# Altium integrated library Xilinx Virtex-E.IntLib: 288 symbols (part 21 of 73)
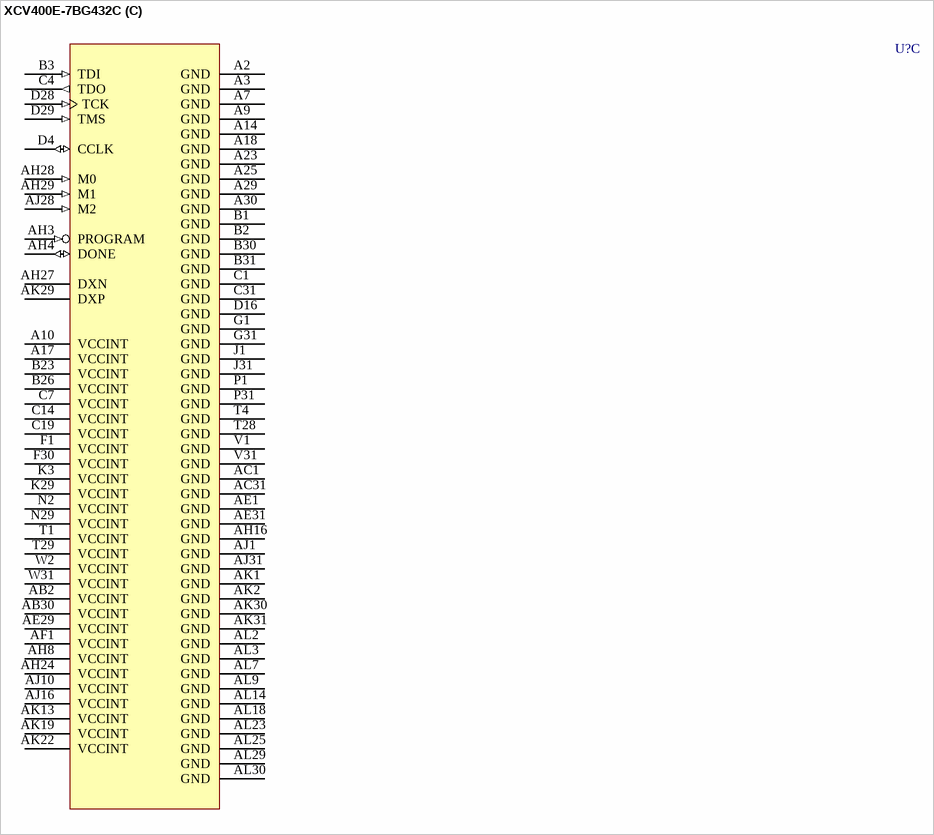
[diagram p413: symbol XCV400E-7BG432C]

## XCV400E-7BG432C
designator U?
Virtex-E 1.8V FPGA, 432-Ball BGA, Commercial Grade; PackageDocument: ver1.1, Apr-2001; Note: Solder pads are defined by the copper, i.e. non-soldermask defined (NSMD); Published: 19-Sep-2001; LatestRevisionDate: 17-Jul-2002; LatestRevisionNote: Re-released for DXP Platform.; DatasheetDocument: Mar-2003; PackageReference: BG432; Publisher: Altium Limited
footprint BG432 (432-Ball Metal Ball Grid Array (BG432))
3D model XCV400E-BG432 (432-Ball Metal Ball Grid Array (BG432))
signal-integrity model XCV400E_BG432 (Virtex-E)
part A pins: A1 VCCO (power), A4 IO_L32N_Y (io), A5 IO_L30N_YY (io), A6 IO_L28P_YY (io), A8 IO_L26N_Y (io), A11 VCCO (power), A12 IO (io), A13 IO_VREF_L19P_YY (io), A15 IO_L17N_Y (io), A16 GCK2 (in), A31 VCCO (power), AA1 VCCO (power), AA2 IO (io), AA3 IO_L58P_YY (io), AA4 VCCO (power), AB1 IO_D5_L58N_YY (io), AB3 IO_D6_L59P_YY (io), AB4 IO_VREF_L59N_YY (io), AC2 IO (io), AC3 IO_L60N_Y (io), AC4 IO_L61P_Y (io), AD1 IO_L60P_Y (io), AD2 IO_L61N_Y (io), AD3 IO_L62P_YY (io), AD4 IO_VREF_L62N_YY (io), AE2 IO (io), AE3 IO_L63N_Y (io), AE4 IO_L64P (io), AF2 IO_L63P_Y (io), AF3 IO_VREF_L65N_Y (io), AF4 IO_L66P_Y (io), AG1 IO_L64N (io), AG2 IO_L65P_Y (io), AG3 IO_L67N (io), AG4 IO_D7_L68P_YY (io), AH1 IO_L66N_Y (io), AH2 IO_L67P (io), AH17 IO_L88P_Y (io), AH18 IO_L90P_YY (io), AH19 IO_L91N_YY (io), AH20 IO (io), AH21 VCCO (power), AH22 IO_L95P_Y (io), AH23 IO_L96N_Y (io), AH25 IO_L99P_Y (io), AH26 IO_L101P_YY (io), AJ2 IO_INIT_L68N_YY (io), AJ3 VCCO (power), AJ17 IO_VREF_L87N_Y (io), AJ18 IO_VREF_L89N_YY (io), AJ19 IO (io), AJ20 IO_L92P_YY (io), AJ21 IO_L93P_YY (io), AJ22 IO_L94P_YY (io), AJ23 IO (io), AJ24 IO (io), AJ25 IO_VREF_L97N_YY (io), AJ26 IO_L100P_YY (io), AJ27 IO_L102P_Y (io), AJ29 VCCO (power), AK16 GCK1 (in), AK17 IO_L87P_Y (io), AK18 IO_L88N_Y (io), AK20 IO_L91P_YY (io), AK21 IO_L92N_YY (io), AK23 IO_VREF_L94N_YY (io), AK24 IO_L96P_Y (io), AK25 IO_L97P_YY (io), AK26 IO_L98N_YY (io), AK27 IO_VREF_L100N_YY (io), AK28 IO_L102N_Y (io), AL17 IO_LVDS_DLL_L86N (io), AL19 IO_L89P_YY (io), AL20 IO_L90N_YY (io), AL21 VCCO (power), AL22 IO_L93N_YY (io), AL24 IO_L95N_Y (io), AL26 IO_L98P_YY (io), AL27 IO_L99N_Y (io), AL28 IO_L101N_YY (io), B4 IO_WRITE_L33N_YY (io), B5 IO_L31N_YY (io), B6 IO_L29N_Y (io), B7 IO_VREF_L27P_YY (io), B8 IO_L26P_Y (io), B9 IO (io), B10 IO_L24N_YY (io), B11 IO (io), B12 IO_L21P_YY (io), B13 IO_L20N_YY (io), B14 IO_L19N_YY (io), B15 IO_VREF_L17P_Y (io), B16 IO_LVDS_DLL_L16P (io), C5 IO_L32P_Y (io), C6 IO_VREF_L30P_YY (io), C8 IO_L27N_YY (io), C9 IO_L25N_Y (io), C10 IO_VREF_L24P_YY (io), C11 IO_L23P_YY (io), C12 IO_L22P_YY (io), C13 IO_L21N_YY (io), C15 IO_L18N_Y (io), C16 IO (io), C30 IO (io), D5 IO_CS_L33P_YY (io), D6 IO_L31P_YY (io), D7 IO_L29P_Y (io), D8 IO_L28N_YY (io), D9 IO (io), D10 IO_L25P_Y (io), D11 VCCO (power), D12 IO_L23N_YY (io), D13 IO_L22N_YY (io), D14 IO_L20P_YY (io), D15 IO_L18P_Y (io), D30 IO_L135P_Y (io), D31 IO_L135N_Y (io), E28 IO_L136P (io), E29 IO_L136N (io), E30 IO_L133P (io), E31 IO_L133N (io), F28 IO_VREF_L134P_Y (io), F29 IO_L134N_Y (io), F31 IO_VREF_L131P_YY (io), G28 IO_L132P_Y (io), G29 IO_L132N_Y (io), G30 IO_L130P_Y (io), H28 IO_L131N_YY (io), H29 IO (io), H30 IO_L130N_Y (io), H31 IO (io), J28 IO_L129P_Y (io), J29 IO_L129N_Y (io), J30 IO_VREF_L128P_YY (io), K28 IO_L128N_YY (io), K30 IO_L127P_YY (io), K31 IO_L127N_YY (io), L28 VCCO (power), L29 IO (io), L30 IO_L126P_Y (io), L31 VCCO (power), M28 IO_L125P_Y (io), M29 IO_L125N_Y (io), M30 IO_L126N_Y (io), M31 IO (io), N28 IO_L124N_Y (io), N30 IO_VREF_L123P_YY (io), N31 IO_L124P_Y (io), P28 IO_L122P_Y (io), P29 IO_L122N_Y (io), P30 IO_L123N_YY (io), R28 IO (io), R29 IO_L120P_YY (io), R30 IO_L121N_Y (io), R31 IO_VREF_L121P_Y (io), T2 IO (io), T31 IO_L120N_YY (io), U1 IO_L53P_Y (io), U2 IO_VREF_L52N_Y (io), U3 IO (io), U4 IO_L52P_Y (io), V2 IO_VREF_L54N_YY (io), V3 IO_L53N_Y (io), V4 IO_D4_L54P_YY (io), W1 IO (io), W3 IO_L55P_Y (io), W4 IO_L55N_Y (io), Y1 IO_L56P_Y (io), Y2 IO_L57N_Y (io), Y3 IO_L56N_Y (io), Y4 IO_L57P_Y (io)
part B pins: A19 IO_L13P_YY (io), A20 IO_L12N_YY (io), A21 VCCO (power), A22 IO (io), A24 IO_L8P_YY (io), A26 IO (io), A27 IO_L4P_YY (io), A28 IO_L2P_YY (io), AA28 VCCO (power), AA29 IO_L113P_YY (io), AA30 IO (io), AA31 VCCO (power), AB28 IO_VREF_L112N_YY (io), AB29 IO_L112P_YY (io), AB31 IO_L113N_YY (io), AC28 IO_L111N_Y (io), AC29 IO_L111P_Y (io), AC30 IO (io), AD28 IO_L109P_YY (io), AD29 IO (io), AD30 IO_L110N_Y (io), AD31 IO_L110P_Y (io), AE28 IO_L108N_Y (io), AE30 IO_VREF_L109N_YY (io), AF28 IO_VREF_L106N_Y (io), AF29 IO_L107N (io), AF30 IO_L107P (io), AF31 IO_L108P_Y (io), AG28 IO_L104N (io), AG29 IO_L105N_Y (io), AG30 IO_L105P_Y (io), AG31 IO_L106P_Y (io), AH5 IO_L70P_Y (io), AH6 IO_L71N_YY (io), AH7 IO_L73N_Y (io), AH9 IO_L76P_Y (io), AH10 IO (io), AH11 VCCO (power), AH12 IO_L80P_YY (io), AH13 IO_L82P_YY (io), AH14 IO_L84P_Y (io), AH15 IO_LVDS_DLL_L86P (io), AH30 IO_L103P_YY (io), AH31 IO_L104P (io), AJ4 IO_L69P_YY (io), AJ5 IO_L71P_YY (io), AJ6 IO_L73P_Y (io), AJ7 IO_VREF_L75P_YY (io), AJ8 IO_L76N_Y (io), AJ9 IO_L77N_Y (io), AJ11 IO (io), AJ12 IO_L81P_YY (io), AJ13 IO_L82N_YY (io), AJ14 IO_L84N_Y (io), AJ15 IO_L85N_Y (io), AJ30 IO_L103N_YY (io), AK3 IO_L69N_YY (io), AK4 IO_L70N_Y (io), AK5 IO_L72N_YY (io), AK6 IO_L74N_YY (io), AK7 IO (io), AK8 IO_L77P_Y (io), AK9 IO_L78N_YY (io), AK10 IO_L79P_YY (io), AK11 IO_L80N_YY (io), AK12 IO_L81N_YY (io), AK14 IO_L83N_YY (io), AK15 IO_VREF_L85P_Y (io), AL1 VCCO (power), AL4 IO_VREF_L72P_YY (io), AL5 IO_L74P_YY (io), AL6 IO_L75N_YY (io), AL8 IO_VREF_L78P_YY (io), AL10 IO_L79N_YY (io), AL11 VCCO (power), AL12 IO (io), AL13 IO_VREF_L83P_YY (io), AL15 IO (io), AL16 GCK0 (in), AL31 VCCO (power), B17 IO_L15P_Y (io), B18 IO_L14N_Y (io), B19 IO_VREF_L13N_YY (io), B20 IO (io), B21 IO_L11N_YY (io), B22 IO_L9P_YY (io), B24 IO_L7P_Y (io), B25 IO_L6N_Y (io), B27 IO_L3N_Y (io), B28 IO_L1N_YY (io), B29 IO_L0N_Y (io), C2 IO_DIN_D0_L34N_YY (io), C3 VCCO (power), C17 IO_LVDS_DLL_L16N (io), C18 IO_VREF_L15N_Y (io), C20 IO_L11P_YY (io), C21 IO_L10N_YY (io), C22 IO_L9N_YY (io), C23 IO (io), C24 IO_L7N_Y (io), C25 IO_L5P_YY (io), C26 IO_L3P_Y (io), C27 IO_L1P_YY (io), C28 IO (io), C29 VCCO (power), D1 IO_L36P_Y (io), D2 IO_L35P (io), D3 IO_DOUT_BUSY_L34P_YY (io), D17 GCK3 (in), D18 IO_L14P_Y (io), D19 IO_L12P_YY (io), D20 IO_L10P_YY (io), D21 VCCO (power), D22 IO_VREF_L8N_YY (io), D23 IO_L6P_Y (io), D24 IO_VREF_L5N_YY (io), D25 IO_L4N_YY (io), D26 IO_VREF_L2N_YY (io), D27 IO_L0P_Y (io), E1 IO_L38P (io), E2 IO_VREF_L37P_Y (io), E3 IO_L36N_Y (io), E4 IO_L35N (io), F2 IO_L39P_Y (io), F3 IO_L38N (io), F4 IO_L37N_Y (io), G2 IO_L40N_YY (io), G3 IO_VREF_L40P_YY (io), G4 IO_L39N_Y (io), H1 IO_L42P_Y (io), H2 IO_L41N_Y (io), H3 IO_L41P_Y (io), H4 IO (io), J2 IO_VREF_L43P_YY (io), J3 IO (io), J4 IO_L42N_Y (io), K1 IO_L44N_YY (io), K2 IO_D2_L44P_YY (io), K4 IO_D1_L43N_YY (io), L1 VCCO (power), L2 IO_L45P_Y (io), L3 IO (io), L4 VCCO (power), M1 IO (io), M2 IO_L46N_Y (io), M3 IO_L46P_Y (io), M4 IO_L45N_Y (io), N1 IO_VREF_L48P_YY (io), N3 IO_L47N_Y (io), N4 IO_L47P_Y (io), P2 IO_L49N_Y (io), P3 IO_L49P_Y (io), P4 IO_D3_L48N_YY (io), R1 IO_L51P_YY (io), R2 IO (io), R3 IO_VREF_L50P_Y (io), R4 IO_L50N_Y (io), T3 IO_L51N_YY (io), T30 IO (io), U28 IO_VREF_L119N_Y (io), U29 IO_L118P_Y (io), U30 IO_L119P_Y (io), U31 IO (io), V28 IO_VREF_L117N_YY (io), V29 IO_L117P_YY (io), V30 IO_L118N_Y (io), W28 IO (io), W29 IO_L116N_Y (io), W30 IO_L116P_Y (io), Y28 IO_L114N_Y (io), Y29 IO_L114P_Y (io), Y30 IO_L115N_Y (io), Y31 IO_L115P_Y (io)
part C pins: A2 GND (power), A3 GND (power), A7 GND (power), A9 GND (power), A10 VCCINT (power), A14 GND (power), A17 VCCINT (power), A18 GND (power), A23 GND (power), A25 GND (power), A29 GND (power), A30 GND (power), AB2 VCCINT (power), AB30 VCCINT (power), AC1 GND (power), AC31 GND (power), AE1 GND (power), AE29 VCCINT (power), AE31 GND (power), AF1 VCCINT (power), AH3 PROGRAM (in), AH4 DONE (io), AH8 VCCINT (power), AH16 GND (power), AH24 VCCINT (power), AH27 DXN, AH28 M0 (in), AH29 M1 (in), AJ1 GND (power), AJ10 VCCINT (power), AJ16 VCCINT (power), AJ28 M2 (in), AJ31 GND (power), AK1 GND (power), AK2 GND (power), AK13 VCCINT (power), AK19 VCCINT (power), AK22 VCCINT (power), AK29 DXP, AK30 GND (power), AK31 GND (power), AL2 GND (power), AL3 GND (power), AL7 GND (power), AL9 GND (power), AL14 GND (power), AL18 GND (power), AL23 GND (power), AL25 GND (power), AL29 GND (power), AL30 GND (power), B1 GND (power), B2 GND (power), B3 TDI (in), B23 VCCINT (power), B26 VCCINT (power), B30 GND (power), B31 GND (power), C1 GND (power), C4 TDO (out), C7 VCCINT (power), C14 VCCINT (power), C19 VCCINT (power), C31 GND (power), D4 CCLK (io), D16 GND (power), D28 TCK (in), D29 TMS (in), F1 VCCINT (power), F30 VCCINT (power), G1 GND (power), G31 GND (power), J1 GND (power), J31 GND (power), K3 VCCINT (power), K29 VCCINT (power), N2 VCCINT (power), N29 VCCINT (power), P1 GND (power), P31 GND (power), T1 VCCINT (power), T4 GND (power), T28 GND (power), T29 VCCINT (power), V1 GND (power), V31 GND (power), W2 VCCINT (power), W31 VCCINT (power)
part A text: BANK 1; BANK 7; BANK 3; BANK 5
part B text: BANK 0; BANK 6; BANK 2; BANK 4

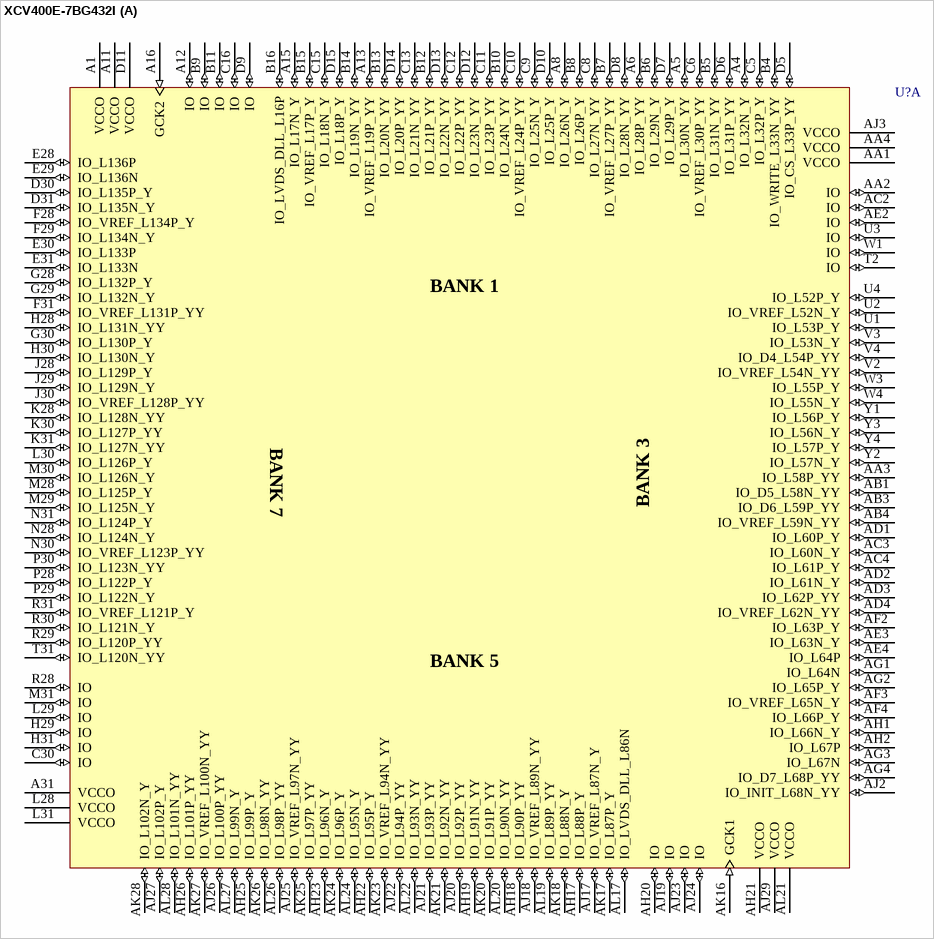
[diagram p148: symbol XCV400E-7BG432I]

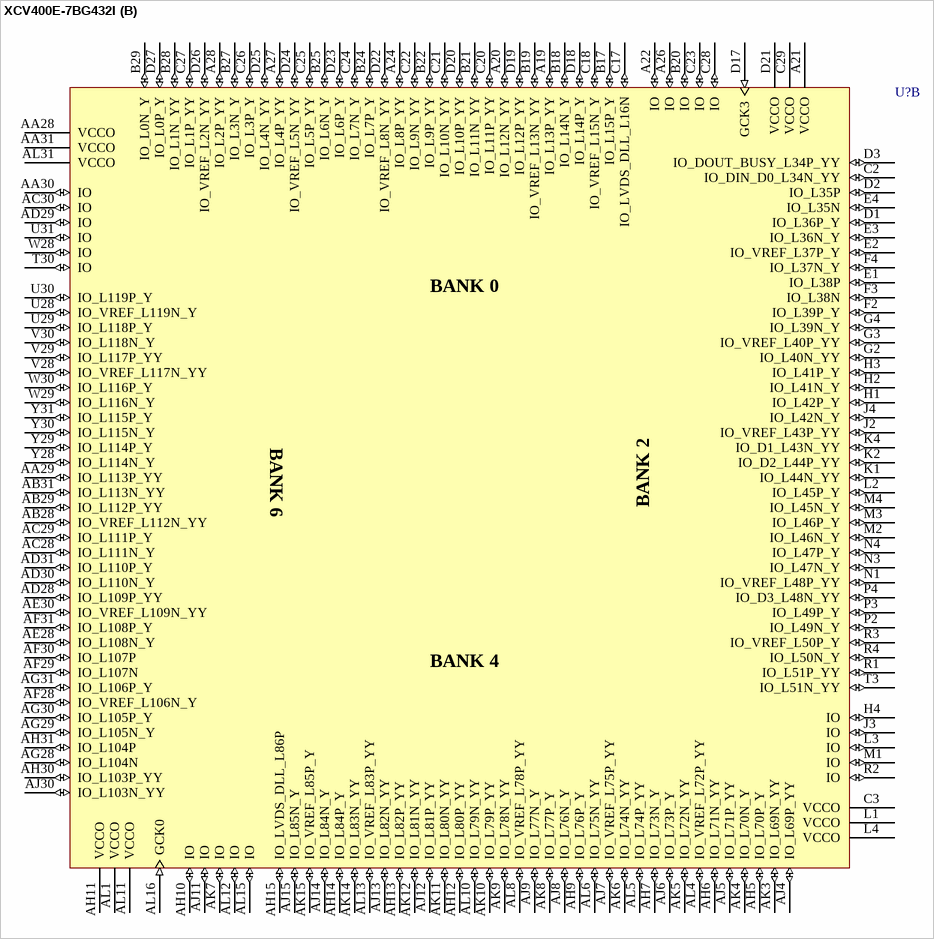
[diagram p149: symbol XCV400E-7BG432I]

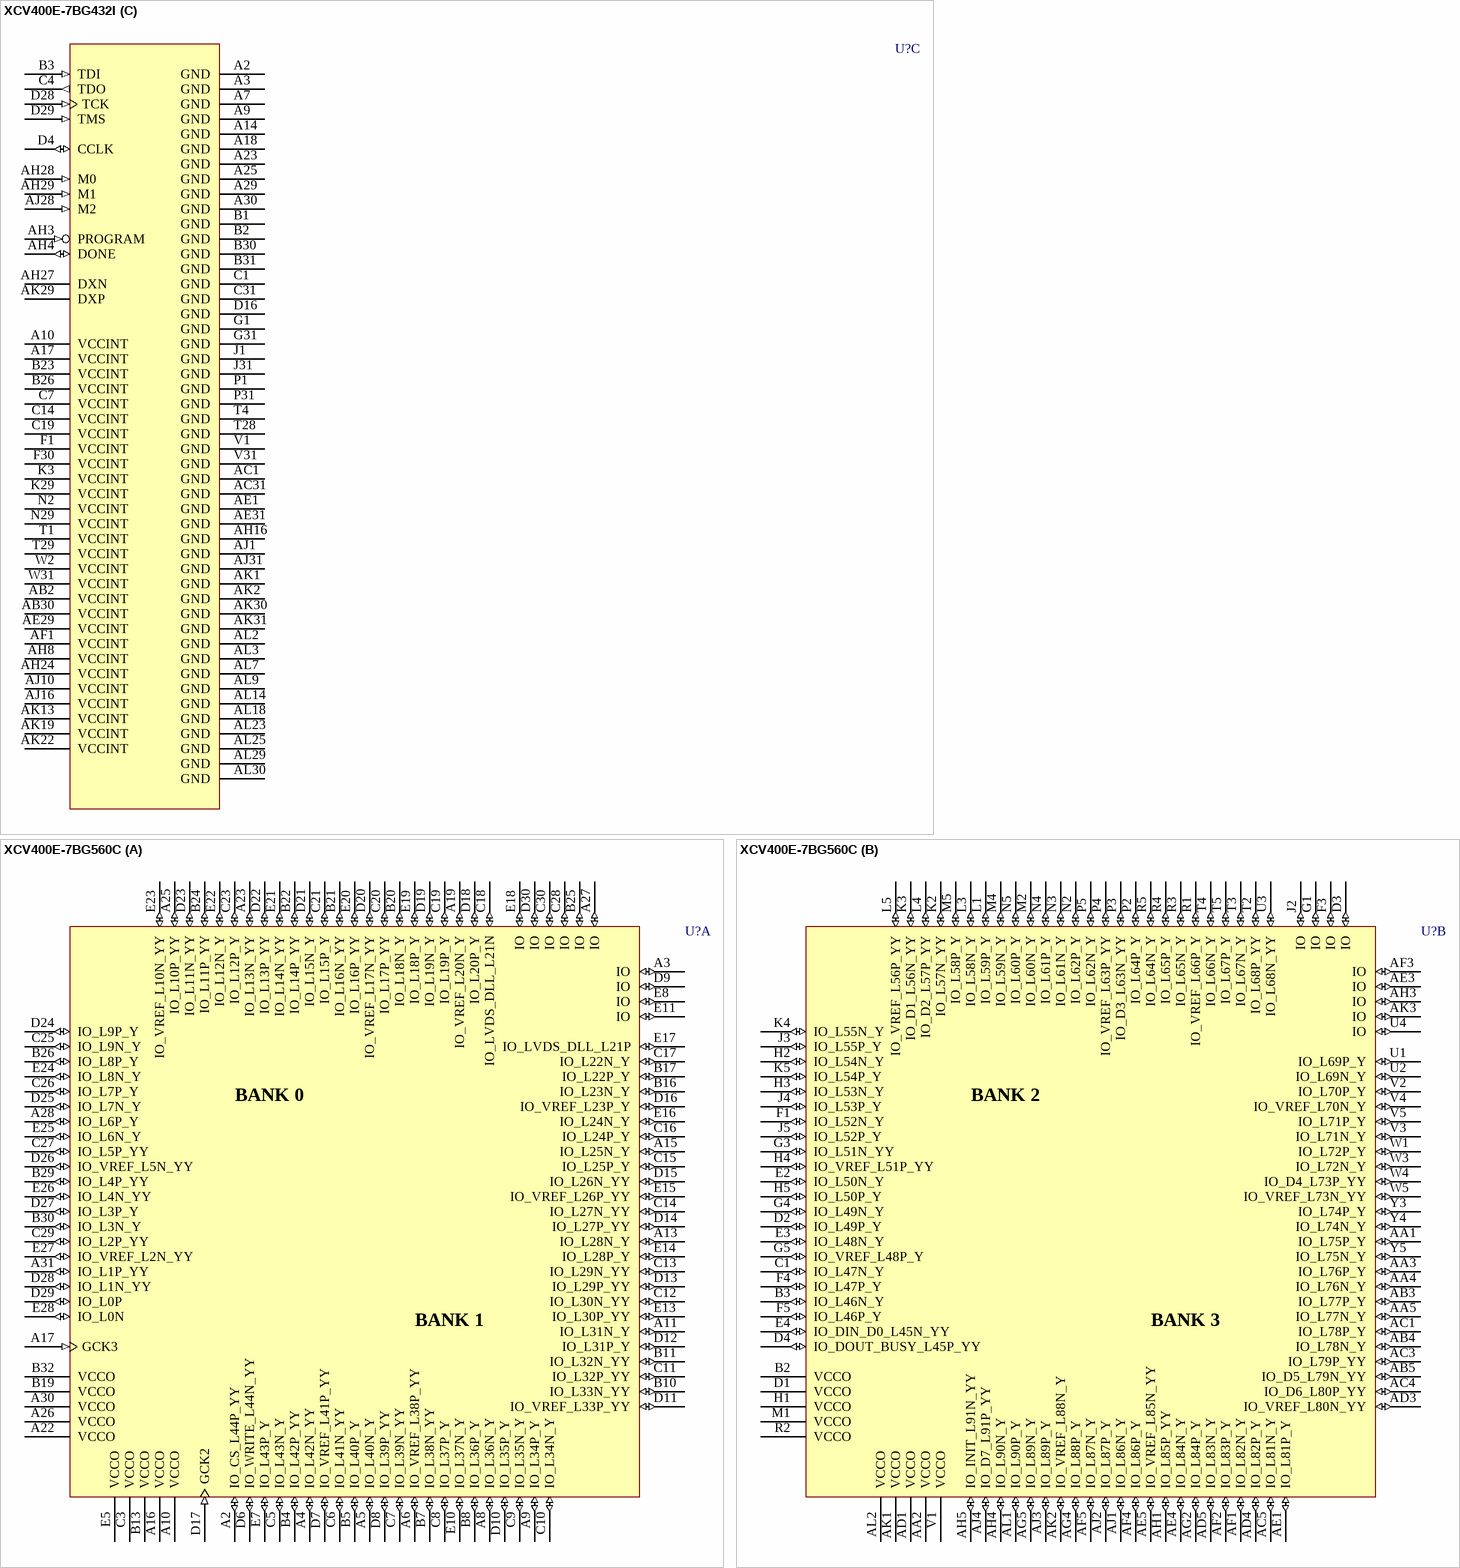
[diagram p150: symbols XCV400E-7BG432I to XCV400E-7BG560C]

## XCV400E-7BG432I
designator U?
Virtex-E 1.8V FPGA, 432-Ball BGA, Industrial Grade; PackageDocument: ver1.1, Apr-2001; Note: Solder pads are defined by the copper, i.e. non-soldermask defined (NSMD); Published: 19-Sep-2001; LatestRevisionDate: 17-Jul-2002; LatestRevisionNote: Re-released for DXP Platform.; DatasheetDocument: Mar-2003; PackageReference: BG432; Publisher: Altium Limited
footprint BG432 (432-Ball Metal Ball Grid Array (BG432))
3D model XCV400E-BG432 (432-Ball Metal Ball Grid Array (BG432))
signal-integrity model XCV400E_BG432 (Virtex-E)
part A pins: A1 VCCO (power), A4 IO_L32N_Y (io), A5 IO_L30N_YY (io), A6 IO_L28P_YY (io), A8 IO_L26N_Y (io), A11 VCCO (power), A12 IO (io), A13 IO_VREF_L19P_YY (io), A15 IO_L17N_Y (io), A16 GCK2 (in), A31 VCCO (power), AA1 VCCO (power), AA2 IO (io), AA3 IO_L58P_YY (io), AA4 VCCO (power), AB1 IO_D5_L58N_YY (io), AB3 IO_D6_L59P_YY (io), AB4 IO_VREF_L59N_YY (io), AC2 IO (io), AC3 IO_L60N_Y (io), AC4 IO_L61P_Y (io), AD1 IO_L60P_Y (io), AD2 IO_L61N_Y (io), AD3 IO_L62P_YY (io), AD4 IO_VREF_L62N_YY (io), AE2 IO (io), AE3 IO_L63N_Y (io), AE4 IO_L64P (io), AF2 IO_L63P_Y (io), AF3 IO_VREF_L65N_Y (io), AF4 IO_L66P_Y (io), AG1 IO_L64N (io), AG2 IO_L65P_Y (io), AG3 IO_L67N (io), AG4 IO_D7_L68P_YY (io), AH1 IO_L66N_Y (io), AH2 IO_L67P (io), AH17 IO_L88P_Y (io), AH18 IO_L90P_YY (io), AH19 IO_L91N_YY (io), AH20 IO (io), AH21 VCCO (power), AH22 IO_L95P_Y (io), AH23 IO_L96N_Y (io), AH25 IO_L99P_Y (io), AH26 IO_L101P_YY (io), AJ2 IO_INIT_L68N_YY (io), AJ3 VCCO (power), AJ17 IO_VREF_L87N_Y (io), AJ18 IO_VREF_L89N_YY (io), AJ19 IO (io), AJ20 IO_L92P_YY (io), AJ21 IO_L93P_YY (io), AJ22 IO_L94P_YY (io), AJ23 IO (io), AJ24 IO (io), AJ25 IO_VREF_L97N_YY (io), AJ26 IO_L100P_YY (io), AJ27 IO_L102P_Y (io), AJ29 VCCO (power), AK16 GCK1 (in), AK17 IO_L87P_Y (io), AK18 IO_L88N_Y (io), AK20 IO_L91P_YY (io), AK21 IO_L92N_YY (io), AK23 IO_VREF_L94N_YY (io), AK24 IO_L96P_Y (io), AK25 IO_L97P_YY (io), AK26 IO_L98N_YY (io), AK27 IO_VREF_L100N_YY (io), AK28 IO_L102N_Y (io), AL17 IO_LVDS_DLL_L86N (io), AL19 IO_L89P_YY (io), AL20 IO_L90N_YY (io), AL21 VCCO (power), AL22 IO_L93N_YY (io), AL24 IO_L95N_Y (io), AL26 IO_L98P_YY (io), AL27 IO_L99N_Y (io), AL28 IO_L101N_YY (io), B4 IO_WRITE_L33N_YY (io), B5 IO_L31N_YY (io), B6 IO_L29N_Y (io), B7 IO_VREF_L27P_YY (io), B8 IO_L26P_Y (io), B9 IO (io), B10 IO_L24N_YY (io), B11 IO (io), B12 IO_L21P_YY (io), B13 IO_L20N_YY (io), B14 IO_L19N_YY (io), B15 IO_VREF_L17P_Y (io), B16 IO_LVDS_DLL_L16P (io), C5 IO_L32P_Y (io), C6 IO_VREF_L30P_YY (io), C8 IO_L27N_YY (io), C9 IO_L25N_Y (io), C10 IO_VREF_L24P_YY (io), C11 IO_L23P_YY (io), C12 IO_L22P_YY (io), C13 IO_L21N_YY (io), C15 IO_L18N_Y (io), C16 IO (io), C30 IO (io), D5 IO_CS_L33P_YY (io), D6 IO_L31P_YY (io), D7 IO_L29P_Y (io), D8 IO_L28N_YY (io), D9 IO (io), D10 IO_L25P_Y (io), D11 VCCO (power), D12 IO_L23N_YY (io), D13 IO_L22N_YY (io), D14 IO_L20P_YY (io), D15 IO_L18P_Y (io), D30 IO_L135P_Y (io), D31 IO_L135N_Y (io), E28 IO_L136P (io), E29 IO_L136N (io), E30 IO_L133P (io), E31 IO_L133N (io), F28 IO_VREF_L134P_Y (io), F29 IO_L134N_Y (io), F31 IO_VREF_L131P_YY (io), G28 IO_L132P_Y (io), G29 IO_L132N_Y (io), G30 IO_L130P_Y (io), H28 IO_L131N_YY (io), H29 IO (io), H30 IO_L130N_Y (io), H31 IO (io), J28 IO_L129P_Y (io), J29 IO_L129N_Y (io), J30 IO_VREF_L128P_YY (io), K28 IO_L128N_YY (io), K30 IO_L127P_YY (io), K31 IO_L127N_YY (io), L28 VCCO (power), L29 IO (io), L30 IO_L126P_Y (io), L31 VCCO (power), M28 IO_L125P_Y (io), M29 IO_L125N_Y (io), M30 IO_L126N_Y (io), M31 IO (io), N28 IO_L124N_Y (io), N30 IO_VREF_L123P_YY (io), N31 IO_L124P_Y (io), P28 IO_L122P_Y (io), P29 IO_L122N_Y (io), P30 IO_L123N_YY (io), R28 IO (io), R29 IO_L120P_YY (io), R30 IO_L121N_Y (io), R31 IO_VREF_L121P_Y (io), T2 IO (io), T31 IO_L120N_YY (io), U1 IO_L53P_Y (io), U2 IO_VREF_L52N_Y (io), U3 IO (io), U4 IO_L52P_Y (io), V2 IO_VREF_L54N_YY (io), V3 IO_L53N_Y (io), V4 IO_D4_L54P_YY (io), W1 IO (io), W3 IO_L55P_Y (io), W4 IO_L55N_Y (io), Y1 IO_L56P_Y (io), Y2 IO_L57N_Y (io), Y3 IO_L56N_Y (io), Y4 IO_L57P_Y (io)
part B pins: A19 IO_L13P_YY (io), A20 IO_L12N_YY (io), A21 VCCO (power), A22 IO (io), A24 IO_L8P_YY (io), A26 IO (io), A27 IO_L4P_YY (io), A28 IO_L2P_YY (io), AA28 VCCO (power), AA29 IO_L113P_YY (io), AA30 IO (io), AA31 VCCO (power), AB28 IO_VREF_L112N_YY (io), AB29 IO_L112P_YY (io), AB31 IO_L113N_YY (io), AC28 IO_L111N_Y (io), AC29 IO_L111P_Y (io), AC30 IO (io), AD28 IO_L109P_YY (io), AD29 IO (io), AD30 IO_L110N_Y (io), AD31 IO_L110P_Y (io), AE28 IO_L108N_Y (io), AE30 IO_VREF_L109N_YY (io), AF28 IO_VREF_L106N_Y (io), AF29 IO_L107N (io), AF30 IO_L107P (io), AF31 IO_L108P_Y (io), AG28 IO_L104N (io), AG29 IO_L105N_Y (io), AG30 IO_L105P_Y (io), AG31 IO_L106P_Y (io), AH5 IO_L70P_Y (io), AH6 IO_L71N_YY (io), AH7 IO_L73N_Y (io), AH9 IO_L76P_Y (io), AH10 IO (io), AH11 VCCO (power), AH12 IO_L80P_YY (io), AH13 IO_L82P_YY (io), AH14 IO_L84P_Y (io), AH15 IO_LVDS_DLL_L86P (io), AH30 IO_L103P_YY (io), AH31 IO_L104P (io), AJ4 IO_L69P_YY (io), AJ5 IO_L71P_YY (io), AJ6 IO_L73P_Y (io), AJ7 IO_VREF_L75P_YY (io), AJ8 IO_L76N_Y (io), AJ9 IO_L77N_Y (io), AJ11 IO (io), AJ12 IO_L81P_YY (io), AJ13 IO_L82N_YY (io), AJ14 IO_L84N_Y (io), AJ15 IO_L85N_Y (io), AJ30 IO_L103N_YY (io), AK3 IO_L69N_YY (io), AK4 IO_L70N_Y (io), AK5 IO_L72N_YY (io), AK6 IO_L74N_YY (io), AK7 IO (io), AK8 IO_L77P_Y (io), AK9 IO_L78N_YY (io), AK10 IO_L79P_YY (io), AK11 IO_L80N_YY (io), AK12 IO_L81N_YY (io), AK14 IO_L83N_YY (io), AK15 IO_VREF_L85P_Y (io), AL1 VCCO (power), AL4 IO_VREF_L72P_YY (io), AL5 IO_L74P_YY (io), AL6 IO_L75N_YY (io), AL8 IO_VREF_L78P_YY (io), AL10 IO_L79N_YY (io), AL11 VCCO (power), AL12 IO (io), AL13 IO_VREF_L83P_YY (io), AL15 IO (io), AL16 GCK0 (in), AL31 VCCO (power), B17 IO_L15P_Y (io), B18 IO_L14N_Y (io), B19 IO_VREF_L13N_YY (io), B20 IO (io), B21 IO_L11N_YY (io), B22 IO_L9P_YY (io), B24 IO_L7P_Y (io), B25 IO_L6N_Y (io), B27 IO_L3N_Y (io), B28 IO_L1N_YY (io), B29 IO_L0N_Y (io), C2 IO_DIN_D0_L34N_YY (io), C3 VCCO (power), C17 IO_LVDS_DLL_L16N (io), C18 IO_VREF_L15N_Y (io), C20 IO_L11P_YY (io), C21 IO_L10N_YY (io), C22 IO_L9N_YY (io), C23 IO (io), C24 IO_L7N_Y (io), C25 IO_L5P_YY (io), C26 IO_L3P_Y (io), C27 IO_L1P_YY (io), C28 IO (io), C29 VCCO (power), D1 IO_L36P_Y (io), D2 IO_L35P (io), D3 IO_DOUT_BUSY_L34P_YY (io), D17 GCK3 (in), D18 IO_L14P_Y (io), D19 IO_L12P_YY (io), D20 IO_L10P_YY (io), D21 VCCO (power), D22 IO_VREF_L8N_YY (io), D23 IO_L6P_Y (io), D24 IO_VREF_L5N_YY (io), D25 IO_L4N_YY (io), D26 IO_VREF_L2N_YY (io), D27 IO_L0P_Y (io), E1 IO_L38P (io), E2 IO_VREF_L37P_Y (io), E3 IO_L36N_Y (io), E4 IO_L35N (io), F2 IO_L39P_Y (io), F3 IO_L38N (io), F4 IO_L37N_Y (io), G2 IO_L40N_YY (io), G3 IO_VREF_L40P_YY (io), G4 IO_L39N_Y (io), H1 IO_L42P_Y (io), H2 IO_L41N_Y (io), H3 IO_L41P_Y (io), H4 IO (io), J2 IO_VREF_L43P_YY (io), J3 IO (io), J4 IO_L42N_Y (io), K1 IO_L44N_YY (io), K2 IO_D2_L44P_YY (io), K4 IO_D1_L43N_YY (io), L1 VCCO (power), L2 IO_L45P_Y (io), L3 IO (io), L4 VCCO (power), M1 IO (io), M2 IO_L46N_Y (io), M3 IO_L46P_Y (io), M4 IO_L45N_Y (io), N1 IO_VREF_L48P_YY (io), N3 IO_L47N_Y (io), N4 IO_L47P_Y (io), P2 IO_L49N_Y (io), P3 IO_L49P_Y (io), P4 IO_D3_L48N_YY (io), R1 IO_L51P_YY (io), R2 IO (io), R3 IO_VREF_L50P_Y (io), R4 IO_L50N_Y (io), T3 IO_L51N_YY (io), T30 IO (io), U28 IO_VREF_L119N_Y (io), U29 IO_L118P_Y (io), U30 IO_L119P_Y (io), U31 IO (io), V28 IO_VREF_L117N_YY (io), V29 IO_L117P_YY (io), V30 IO_L118N_Y (io), W28 IO (io), W29 IO_L116N_Y (io), W30 IO_L116P_Y (io), Y28 IO_L114N_Y (io), Y29 IO_L114P_Y (io), Y30 IO_L115N_Y (io), Y31 IO_L115P_Y (io)
part C pins: A2 GND (power), A3 GND (power), A7 GND (power), A9 GND (power), A10 VCCINT (power), A14 GND (power), A17 VCCINT (power), A18 GND (power), A23 GND (power), A25 GND (power), A29 GND (power), A30 GND (power), AB2 VCCINT (power), AB30 VCCINT (power), AC1 GND (power), AC31 GND (power), AE1 GND (power), AE29 VCCINT (power), AE31 GND (power), AF1 VCCINT (power), AH3 PROGRAM (in), AH4 DONE (io), AH8 VCCINT (power), AH16 GND (power), AH24 VCCINT (power), AH27 DXN, AH28 M0 (in), AH29 M1 (in), AJ1 GND (power), AJ10 VCCINT (power), AJ16 VCCINT (power), AJ28 M2 (in), AJ31 GND (power), AK1 GND (power), AK2 GND (power), AK13 VCCINT (power), AK19 VCCINT (power), AK22 VCCINT (power), AK29 DXP, AK30 GND (power), AK31 GND (power), AL2 GND (power), AL3 GND (power), AL7 GND (power), AL9 GND (power), AL14 GND (power), AL18 GND (power), AL23 GND (power), AL25 GND (power), AL29 GND (power), AL30 GND (power), B1 GND (power), B2 GND (power), B3 TDI (in), B23 VCCINT (power), B26 VCCINT (power), B30 GND (power), B31 GND (power), C1 GND (power), C4 TDO (out), C7 VCCINT (power), C14 VCCINT (power), C19 VCCINT (power), C31 GND (power), D4 CCLK (io), D16 GND (power), D28 TCK (in), D29 TMS (in), F1 VCCINT (power), F30 VCCINT (power), G1 GND (power), G31 GND (power), J1 GND (power), J31 GND (power), K3 VCCINT (power), K29 VCCINT (power), N2 VCCINT (power), N29 VCCINT (power), P1 GND (power), P31 GND (power), T1 VCCINT (power), T4 GND (power), T28 GND (power), T29 VCCINT (power), V1 GND (power), V31 GND (power), W2 VCCINT (power), W31 VCCINT (power)
part A text: BANK 1; BANK 7; BANK 3; BANK 5
part B text: BANK 0; BANK 6; BANK 2; BANK 4

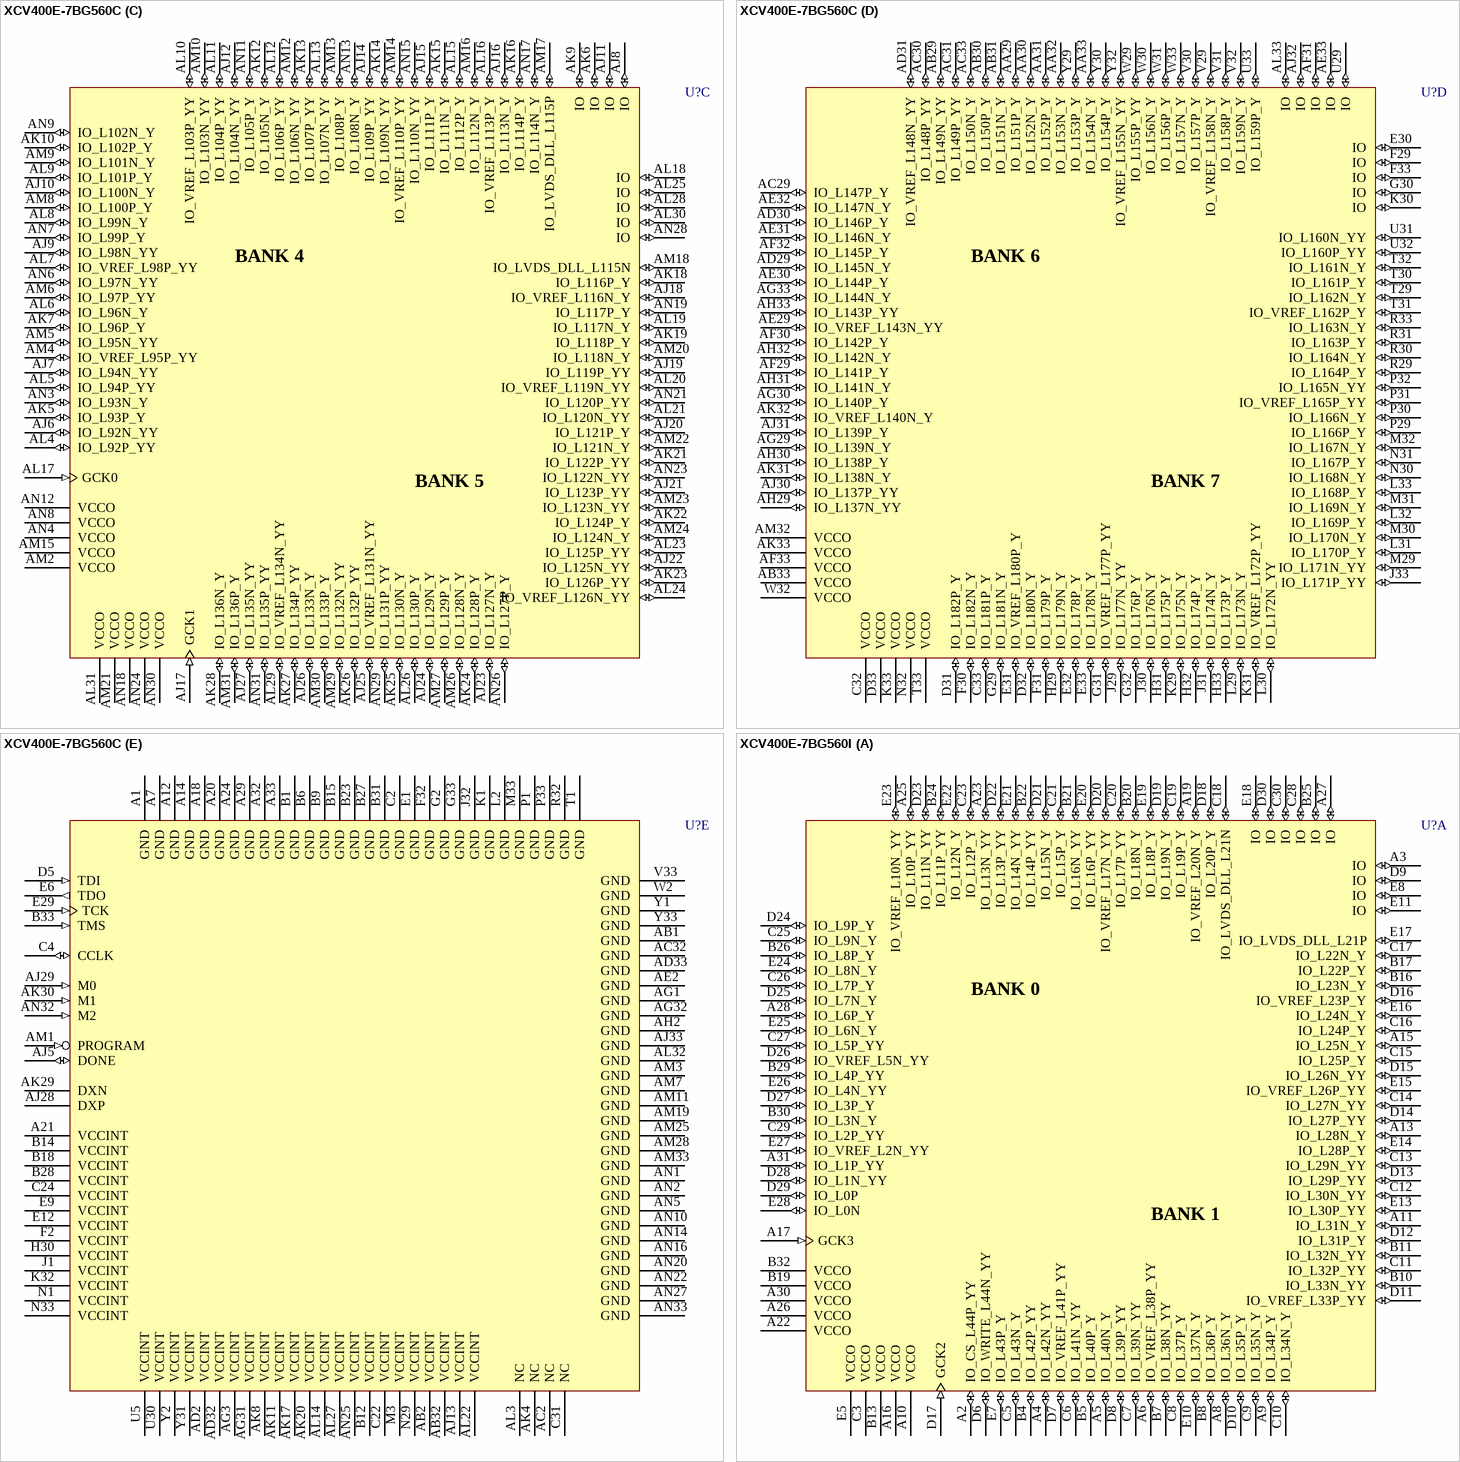
[diagram p151: symbols XCV400E-7BG560C to XCV400E-7BG560I]

## XCV400E-7BG560C
designator U?
Virtex-E 1.8V FPGA, 560-Ball BGA, Commercial Grade; PackageDocument: ver1.1, Apr-2001; Note: Solder pads are defined by the copper, i.e. non-soldermask defined (NSMD); Published: 19-Sep-2001; LatestRevisionDate: 17-Jul-2002; LatestRevisionNote: Re-released for DXP Platform.; DatasheetDocument: Mar-2003; PackageReference: BG560; Publisher: Altium Limited
footprint BG560 (560-Ball Metal Ball Grid Array (BG560))
3D model XCV400E-BG560 (560-Ball Metal Ball Grid Array (BG560))
signal-integrity model XCV400E_BG560 (Virtex-E)
part A pins: A2 IO_CS_L44P_YY (io), A3 IO (io), A4 IO_L42N_YY (io), A5 IO_L40N_Y (io), A6 IO_VREF_L38P_YY (io), A8 IO_L36N_Y (io), A9 IO_L34P_Y (io), A10 VCCO (power), A11 IO_L31N_Y (io), A13 IO_L28N_Y (io), A15 IO_L25N_Y (io), A16 VCCO (power), A17 GCK3 (in), A19 IO_VREF_L20N_Y (io), A22 VCCO (power), A23 IO_L13N_YY (io), A25 IO_L10P_YY (io), A26 VCCO (power), A27 IO (io), A28 IO_L6P_Y (io), A30 VCCO (power), A31 IO_L1P_YY (io), B4 IO_L42P_YY (io), B5 IO_L40P_Y (io), B7 IO_L38N_YY (io), B8 IO_L36P_Y (io), B10 IO_L33N_YY (io), B11 IO_L32N_YY (io), B13 VCCO (power), B16 IO_L23N_Y (io), B17 IO_L22P_Y (io), B19 VCCO (power), B20 IO_L18N_Y (io), B21 IO_L16N_YY (io), B22 IO_L14P_YY (io), B24 IO_L11P_YY (io), B25 IO (io), B26 IO_L8P_Y (io), B29 IO_L4P_YY (io), B30 IO_L3N_Y (io), B32 VCCO (power), C3 VCCO (power), C5 IO_L43N_Y (io), C6 IO_L41N_YY (io), C7 IO_L39N_YY (io), C8 IO_L37P_Y (io), C9 IO_L35N_Y (io), C10 IO_L34N_Y (io), C11 IO_L32P_YY (io), C12 IO_L30N_YY (io), C13 IO_L29N_YY (io), C14 IO_L27N_YY (io), C15 IO_L25P_Y (io), C16 IO_L24P_Y (io), C17 IO_L22N_Y (io), C18 IO_LVDS_DLL_L21N (io), C19 IO_L19P_Y (io), C20 IO_L17P_YY (io), C21 IO_L15P_Y (io), C23 IO_L12P_Y (io), C25 IO_L9N_Y (io), C26 IO_L7P_Y (io), C27 IO_L5P_YY (io), C28 IO (io), C29 IO_L2P_YY (io), C30 IO (io), D6 IO_WRITE_L44N_YY (io), D7 IO_VREF_L41P_YY (io), D8 IO_L39P_YY (io), D9 IO (io), D10 IO_L35P_Y (io), D11 IO_VREF_L33P_YY (io), D12 IO_L31P_Y (io), D13 IO_L29P_YY (io), D14 IO_L27P_YY (io), D15 IO_L26N_YY (io), D16 IO_VREF_L23P_Y (io), D17 GCK2 (in), D18 IO_L20P_Y (io), D19 IO_L19N_Y (io), D20 IO_VREF_L17N_YY (io), D21 IO_L15N_Y (io), D22 IO_L13P_YY (io), D23 IO_L11N_YY (io), D24 IO_L9P_Y (io), D25 IO_L7N_Y (io), D26 IO_VREF_L5N_YY (io), D27 IO_L3P_Y (io), D28 IO_L1N_YY (io), D29 IO_L0P (io), D30 IO (io), E5 VCCO (power), E7 IO_L43P_Y (io), E8 IO (io), E10 IO_L37N_Y (io), E11 IO (io), E13 IO_L30P_YY (io), E14 IO_L28P_Y (io), E15 IO_VREF_L26P_YY (io), E16 IO_L24N_Y (io), E17 IO_LVDS_DLL_L21P (io), E18 IO (io), E19 IO_L18P_Y (io), E20 IO_L16P_YY (io), E21 IO_L14N_YY (io), E22 IO_L12N_Y (io), E23 IO_VREF_L10N_YY (io), E24 IO_L8N_Y (io), E25 IO_L6N_Y (io), E26 IO_L4N_YY (io), E27 IO_VREF_L2N_YY (io), E28 IO_L0N (io)
part B pins: AA1 IO_L75P_Y (io), AA2 VCCO (power), AA3 IO_L76P_Y (io), AA4 IO_L76N_Y (io), AA5 IO_L77N_Y (io), AB3 IO_L77P_Y (io), AB4 IO_L78N_Y (io), AB5 IO_D5_L79N_YY (io), AC1 IO_L78P_Y (io), AC3 IO_L79P_YY (io), AC4 IO_D6_L80P_YY (io), AC5 IO_L81N_Y (io), AD1 VCCO (power), AD3 IO_VREF_L80N_YY (io), AD4 IO_L82P_Y (io), AD5 IO_L83N_Y (io), AE1 IO_L81P_Y (io), AE3 IO (io), AE4 IO_L84N_Y (io), AE5 IO_VREF_L85N_YY (io), AF1 IO_L82N_Y (io), AF2 IO_L83P_Y (io), AF3 IO (io), AF4 IO_L86P_Y (io), AF5 IO_L87N_Y (io), AG2 IO_L84P_Y (io), AG4 IO_L88P_Y (io), AG5 IO_L89N_Y (io), AH1 IO_L85P_YY (io), AH3 IO (io), AH4 IO_L90N_Y (io), AH5 IO_INIT_L91N_YY (io), AJ1 IO_L86N_Y (io), AJ2 IO_L87P_Y (io), AJ3 IO_L89P_Y (io), AJ4 IO_D7_L91P_YY (io), AK1 VCCO (power), AK2 IO_VREF_L88N_Y (io), AK3 IO (io), AL1 IO_L90P_Y (io), AL2 VCCO (power), B2 VCCO (power), B3 IO_L46N_Y (io), C1 IO_L47N_Y (io), D1 VCCO (power), D2 IO_L49P_Y (io), D3 IO (io), D4 IO_DOUT_BUSY_L45P_YY (io), E2 IO_L50N_Y (io), E3 IO_L48N_Y (io), E4 IO_DIN_D0_L45N_YY (io), F1 IO_L52N_Y (io), F3 IO (io), F4 IO_L47P_Y (io), F5 IO_L46P_Y (io), G1 IO (io), G3 IO_L51N_YY (io), G4 IO_L49N_Y (io), G5 IO_VREF_L48P_Y (io), H1 VCCO (power), H2 IO_L54N_Y (io), H3 IO_L53N_Y (io), H4 IO_VREF_L51P_YY (io), H5 IO_L50P_Y (io), J2 IO (io), J3 IO_L55P_Y (io), J4 IO_L53P_Y (io), J5 IO_L52P_Y (io), K2 IO_L57N_YY (io), K3 IO_D1_L56N_YY (io), K4 IO_L55N_Y (io), K5 IO_L54P_Y (io), L1 IO_L59P_Y (io), L3 IO_L58N_Y (io), L4 IO_D2_L57P_YY (io), L5 IO_VREF_L56P_YY (io), M1 VCCO (power), M2 IO_L60N_Y (io), M4 IO_L59N_Y (io), M5 IO_L58P_Y (io), N2 IO_L62P_Y (io), N3 IO_L61N_Y (io), N4 IO_L61P_Y (io), N5 IO_L60P_Y (io), P2 IO_L64P_Y (io), P3 IO_D3_L63N_YY (io), P4 IO_VREF_L63P_YY (io), P5 IO_L62N_Y (io), R1 IO_VREF_L66P_Y (io), R2 VCCO (power), R3 IO_L65N_Y (io), R4 IO_L65P_Y (io), R5 IO_L64N_Y (io), T2 IO_L68P_YY (io), T3 IO_L67N_Y (io), T4 IO_L66N_Y (io), T5 IO_L67P_Y (io), U1 IO_L69P_Y (io), U2 IO_L69N_Y (io), U3 IO_L68N_YY (io), U4 IO (io), V1 VCCO (power), V2 IO_L70P_Y (io), V3 IO_L71N_Y (io), V4 IO_VREF_L70N_Y (io), V5 IO_L71P_Y (io), W1 IO_L72P_Y (io), W3 IO_L72N_Y (io), W4 IO_D4_L73P_YY (io), W5 IO_VREF_L73N_YY (io), Y3 IO_L74P_Y (io), Y4 IO_L74N_Y (io), Y5 IO_L75N_Y (io)
part C pins: AJ6 IO_L92N_YY (io), AJ7 IO_L94N_YY (io), AJ8 IO (io), AJ9 IO_L98N_YY (io), AJ10 IO_L100N_Y (io), AJ11 IO (io), AJ12 IO_L104N_YY (io), AJ14 IO_L109P_YY (io), AJ15 IO_L111P_Y (io), AJ16 IO_L113N_Y (io), AJ17 GCK1 (in), AJ18 IO_VREF_L116N_Y (io), AJ19 IO_L119P_YY (io), AJ20 IO_L121P_Y (io), AJ21 IO_L123P_YY (io), AJ22 IO_L125N_YY (io), AJ23 IO_L127N_Y (io), AJ24 IO_L129N_Y (io), AJ25 IO_VREF_L131N_YY (io), AJ26 IO_L133N_Y (io), AJ27 IO_L135N_YY (io), AK5 IO_L93P_Y (io), AK6 IO (io), AK7 IO_L96P_Y (io), AK9 IO (io), AK10 IO_L102P_Y (io), AK12 IO_L105N_Y (io), AK13 IO_L107P_YY (io), AK14 IO_L109N_YY (io), AK15 IO_L111N_Y (io), AK16 IO_L114P_Y (io), AK18 IO_L116P_Y (io), AK19 IO_L118P_Y (io), AK21 IO_L122P_YY (io), AK22 IO_L124P_Y (io), AK23 IO_L126P_YY (io), AK24 IO_L128P_Y (io), AK25 IO_L130N_Y (io), AK26 IO_L132P_YY (io), AK27 IO_L134P_YY (io), AK28 IO_L136N_Y (io), AL4 IO_L92P_YY (io), AL5 IO_L94P_YY (io), AL6 IO_L96N_Y (io), AL7 IO_VREF_L98P_YY (io), AL8 IO_L99N_Y (io), AL9 IO_L101P_Y (io), AL10 IO_VREF_L103P_YY (io), AL11 IO_L104P_YY (io), AL12 IO_L106P_YY (io), AL13 IO_L107N_YY (io), AL15 IO_L112P_Y (io), AL16 IO_VREF_L113P_Y (io), AL17 GCK0 (in), AL18 IO (io), AL19 IO_L117N_Y (io), AL20 IO_VREF_L119N_YY (io), AL21 IO_L120N_YY (io), AL23 IO_L125P_YY (io), AL24 IO_VREF_L126N_YY (io), AL25 IO (io), AL26 IO_L130P_Y (io), AL28 IO (io), AL29 IO_VREF_L134N_YY (io), AL30 IO (io), AL31 VCCO (power), AM2 VCCO (power), AM4 IO_VREF_L95P_YY (io), AM5 IO_L95N_YY (io), AM6 IO_L97P_YY (io), AM8 IO_L100P_Y (io), AM9 IO_L101N_Y (io), AM10 IO_L103N_YY (io), AM12 IO_L106N_YY (io), AM13 IO_L108P_Y (io), AM14 IO_VREF_L110P_YY (io), AM15 VCCO (power), AM16 IO_L112N_Y (io), AM17 IO_LVDS_DLL_L115P (io), AM18 IO_LVDS_DLL_L115N (io), AM20 IO_L118N_Y (io), AM21 VCCO (power), AM22 IO_L121N_Y (io), AM23 IO_L123N_YY (io), AM24 IO_L124N_Y (io), AM26 IO_L128N_Y (io), AM27 IO_L129P_Y (io), AM29 IO_L132N_YY (io), AM30 IO_L133P_Y (io), AM31 IO_L136P_Y (io), AN3 IO_L93N_Y (io), AN4 VCCO (power), AN6 IO_L97N_YY (io), AN7 IO_L99P_Y (io), AN8 VCCO (power), AN9 IO_L102N_Y (io), AN11 IO_L105P_Y (io), AN12 VCCO (power), AN13 IO_L108N_Y (io), AN15 IO_L110N_YY (io), AN17 IO_L114N_Y (io), AN18 VCCO (power), AN19 IO_L117P_Y (io), AN21 IO_L120P_YY (io), AN23 IO_L122N_YY (io), AN24 VCCO (power), AN26 IO_L127P_Y (io), AN28 IO (io), AN29 IO_L131P_YY (io), AN30 VCCO (power), AN31 IO_L135P_YY (io)
part D pins: AA29 IO_L151P_Y (io), AA30 IO_L152N_Y (io), AA31 IO_L152P_Y (io), AA32 IO_L153N_Y (io), AA33 IO_L154N_Y (io), AB29 IO_L149N_YY (io), AB30 IO_L150P_Y (io), AB31 IO_L151N_Y (io), AB33 VCCO (power), AC29 IO_L147P_Y (io), AC30 IO_L148P_YY (io), AC31 IO_L149P_YY (io), AC33 IO_L150N_Y (io), AD29 IO_L145N_Y (io), AD30 IO_L146P_Y (io), AD31 IO_VREF_L148N_YY (io), AE29 IO_VREF_L143N_YY (io), AE30 IO_L144P_Y (io), AE31 IO_L146N_Y (io), AE32 IO_L147N_Y (io), AE33 IO (io), AF29 IO_L141P_Y (io), AF30 IO_L142P_Y (io), AF31 IO (io), AF32 IO_L145P_Y (io), AF33 VCCO (power), AG29 IO_L139N_Y (io), AG30 IO_L140P_Y (io), AG33 IO_L144N_Y (io), AH29 IO_L137N_YY (io), AH30 IO_L138P_Y (io), AH31 IO_L141N_Y (io), AH32 IO_L142N_Y (io), AH33 IO_L143P_YY (io), AJ30 IO_L137P_YY (io), AJ31 IO_L139P_Y (io), AJ32 IO (io), AK31 IO_L138N_Y (io), AK32 IO_VREF_L140N_Y (io), AK33 VCCO (power), AL33 IO (io), AM32 VCCO (power), C32 VCCO (power), C33 IO_L181P_Y (io), D31 IO_L182P_Y (io), D32 IO_L180N_Y (io), D33 VCCO (power), E30 IO (io), E31 IO_VREF_L180P_Y (io), E32 IO_L178P_Y (io), E33 IO_L178N_Y (io), F29 IO (io), F30 IO_L182N_Y (io), F31 IO_L179P_Y (io), F33 IO (io), G29 IO_L181N_Y (io), G30 IO (io), G31 IO_VREF_L177P_YY (io), G32 IO_L176P_Y (io), H29 IO_L179N_Y (io), H31 IO_L175P_Y (io), H32 IO_L174P_Y (io), H33 IO_L173P_Y (io), J29 IO_L177N_YY (io), J30 IO_L176N_Y (io), J31 IO_L174N_Y (io), J33 IO_L171P_YY (io), K29 IO_L175N_Y (io), K30 IO (io), K31 IO_VREF_L172P_YY (io), K33 VCCO (power), L29 IO_L173N_Y (io), L30 IO_L172N_YY (io), L31 IO_L170P_Y (io), L32 IO_L169P_Y (io), L33 IO_L168P_Y (io), M29 IO_L171N_YY (io), M30 IO_L170N_Y (io), M31 IO_L169N_Y (io), M32 IO_L167N_Y (io), N30 IO_L168N_Y (io), N31 IO_L167P_Y (io), N32 VCCO (power), P29 IO_L166P_Y (io), P30 IO_L166N_Y (io), P31 IO_VREF_L165P_YY (io), P32 IO_L165N_YY (io), R29 IO_L164P_Y (io), R30 IO_L164N_Y (io), R31 IO_L163P_Y (io), R33 IO_L163N_Y (io), T29 IO_L162N_Y (io), T30 IO_L161P_Y (io), T31 IO_VREF_L162P_Y (io), T32 IO_L161N_Y (io), T33 VCCO (power), U29 IO (io), U31 IO_L160N_YY (io), U32 IO_L160P_YY (io), U33 IO_L159P_Y (io), V29 IO_VREF_L158N_Y (io), V30 IO_L157P_Y (io), V31 IO_L158P_Y (io), V32 IO_L159N_Y (io), W29 IO_L155P_YY (io), W30 IO_L156N_Y (io), W31 IO_L156P_Y (io), W32 VCCO (power), W33 IO_L157N_Y (io), Y29 IO_L153P_Y (io), Y30 IO_L154P_Y (io), Y32 IO_VREF_L155N_YY (io)
part E pins: A1 GND (power), A7 GND (power), A12 GND (power), A14 GND (power), A18 GND (power), A20 GND (power), A21 VCCINT (power), A24 GND (power), A29 GND (power), A32 GND (power), A33 GND (power), AB1 GND (power), AB2 VCCINT (power), AB32 VCCINT (power), AC2 NC, AC32 GND (power), AD2 VCCINT (power), AD32 VCCINT (power), AD33 GND (power), AE2 GND (power), AG1 GND (power), AG3 VCCINT (power), AG31 VCCINT (power), AG32 GND (power), AH2 GND (power), AJ5 DONE (io), AJ13 VCCINT (power), AJ28 DXP, AJ29 M0 (in), AJ33 GND (power), AK4 NC, AK8 VCCINT (power), AK11 VCCINT (power), AK17 VCCINT (power), AK20 VCCINT (power), AK29 DXN, AK30 M1 (in), AL3 NC, AL14 VCCINT (power), AL22 VCCINT (power), AL27 VCCINT (power), AL32 GND (power), AM1 PROGRAM (in), AM3 GND (power), AM7 GND (power), AM11 GND (power), AM19 GND (power), AM25 GND (power), AM28 GND (power), AM33 GND (power), AN1 GND (power), AN2 GND (power), AN5 GND (power), AN10 GND (power), AN14 GND (power), AN16 GND (power), AN20 GND (power), AN22 GND (power), AN25 VCCINT (power), AN27 GND (power), AN32 M2 (in), AN33 GND (power), B1 GND (power), B6 GND (power), B9 GND (power), B12 VCCINT (power), B14 VCCINT (power), B15 GND (power), B18 VCCINT (power), B23 GND (power), B27 GND (power), B28 VCCINT (power), B31 GND (power), B33 TMS (in), C2 GND (power), C4 CCLK (io), C22 VCCINT (power), C24 VCCINT (power), C31 NC, D5 TDI (in), E1 GND (power), E6 TDO (out), E9 VCCINT (power), E12 VCCINT (power), E29 TCK (in), F2 VCCINT (power), F32 GND (power), G2 GND (power), G33 GND (power), H30 VCCINT (power), J1 VCCINT (power), J32 GND (power), K1 GND (power), K32 VCCINT (power), L2 GND (power), M3 VCCINT (power), M33 GND (power), N1 VCCINT (power), N29 VCCINT (power), N33 VCCINT (power), P1 GND (power), P33 GND (power), R32 GND (power), T1 GND (power), U5 VCCINT (power), U30 VCCINT (power), V33 GND (power), W2 GND (power), Y1 GND (power), Y2 VCCINT (power), Y31 VCCINT (power), Y33 GND (power)
part A text: BANK 0; BANK 1
part B text: BANK 2; BANK 3
part C text: BANK 4; BANK 5
part D text: BANK 6; BANK 7

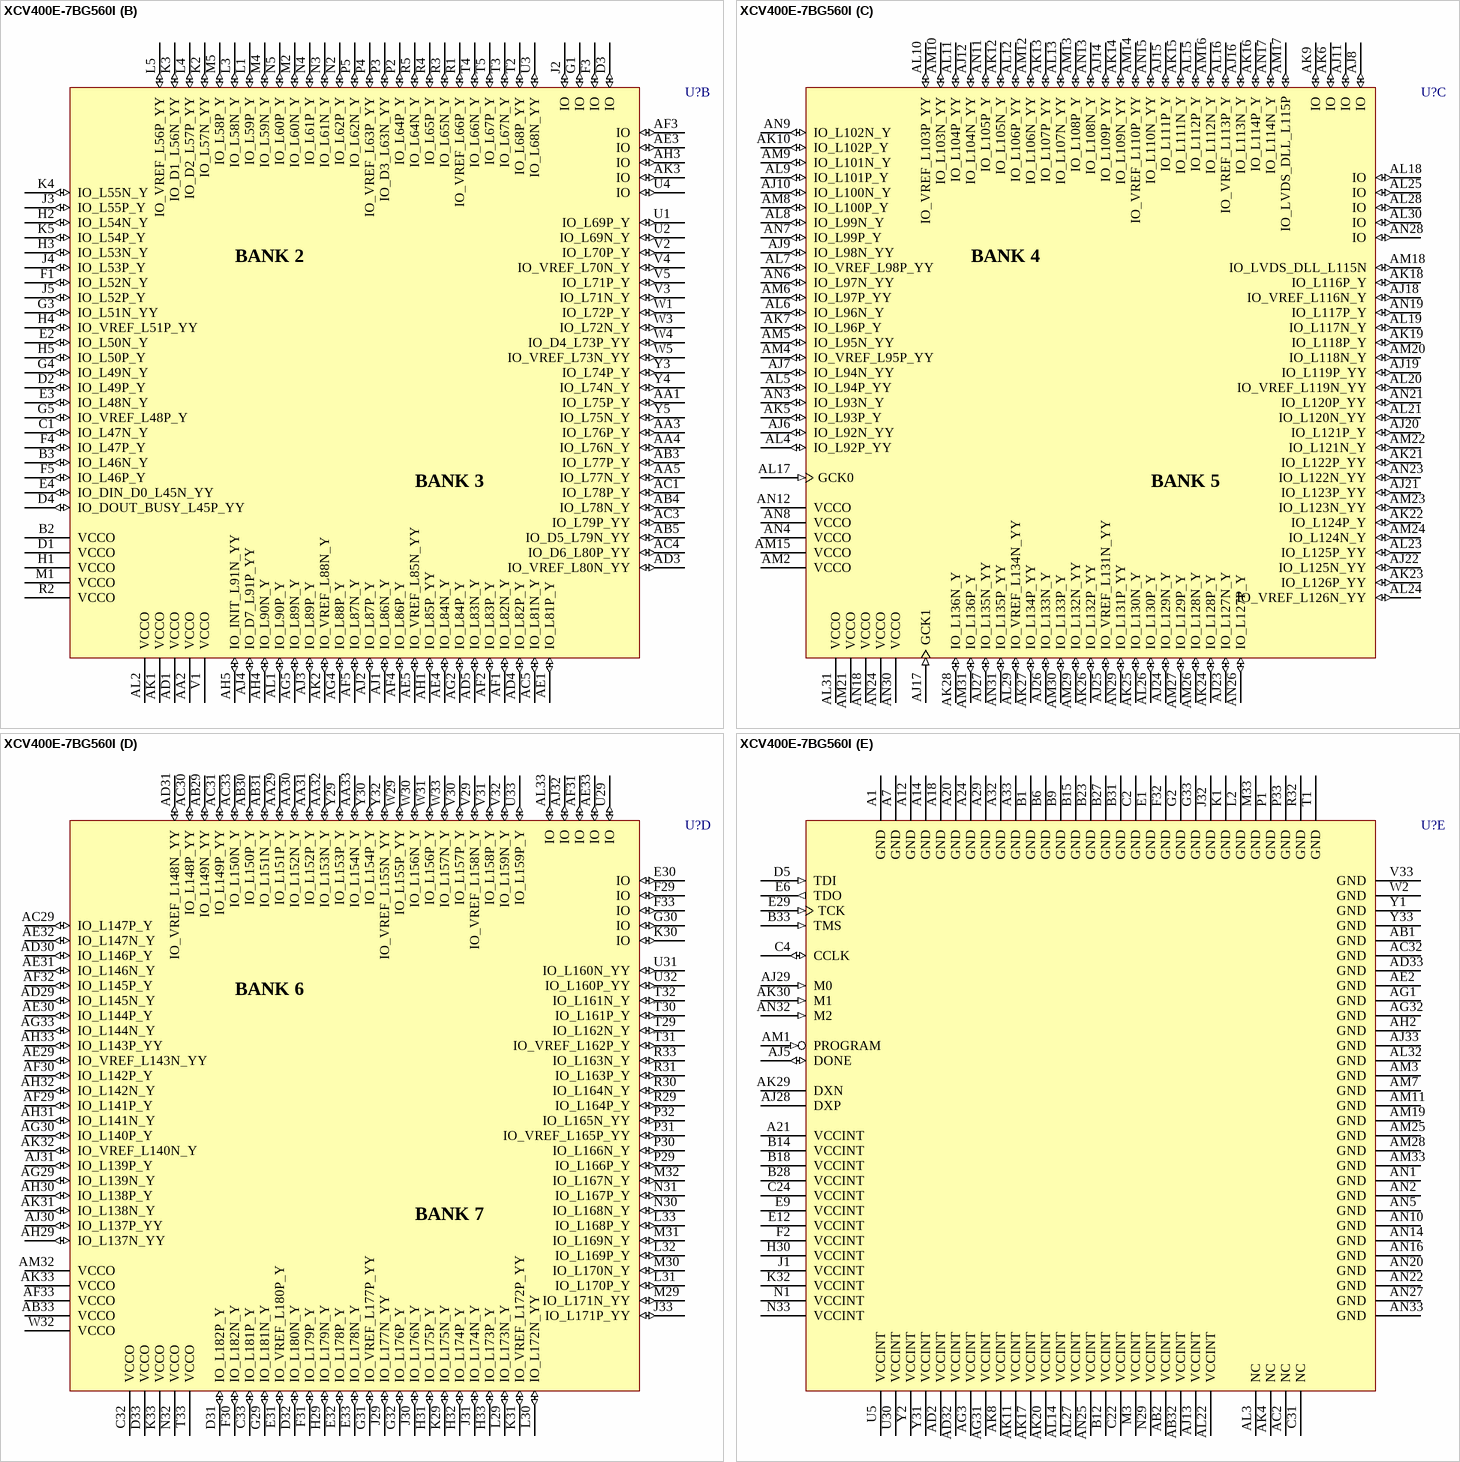
[diagram p152: symbol XCV400E-7BG560I]

## XCV400E-7BG560I
designator U?
Virtex-E 1.8V FPGA, 560-Ball BGA, Industrial Grade; PackageDocument: ver1.1, Apr-2001; Note: Solder pads are defined by the copper, i.e. non-soldermask defined (NSMD); Published: 19-Sep-2001; LatestRevisionDate: 17-Jul-2002; LatestRevisionNote: Re-released for DXP Platform.; DatasheetDocument: Mar-2003; PackageReference: BG560; Publisher: Altium Limited
footprint BG560 (560-Ball Metal Ball Grid Array (BG560))
3D model XCV400E-BG560 (560-Ball Metal Ball Grid Array (BG560))
signal-integrity model XCV400E_BG560 (Virtex-E)
part A pins: A2 IO_CS_L44P_YY (io), A3 IO (io), A4 IO_L42N_YY (io), A5 IO_L40N_Y (io), A6 IO_VREF_L38P_YY (io), A8 IO_L36N_Y (io), A9 IO_L34P_Y (io), A10 VCCO (power), A11 IO_L31N_Y (io), A13 IO_L28N_Y (io), A15 IO_L25N_Y (io), A16 VCCO (power), A17 GCK3 (in), A19 IO_VREF_L20N_Y (io), A22 VCCO (power), A23 IO_L13N_YY (io), A25 IO_L10P_YY (io), A26 VCCO (power), A27 IO (io), A28 IO_L6P_Y (io), A30 VCCO (power), A31 IO_L1P_YY (io), B4 IO_L42P_YY (io), B5 IO_L40P_Y (io), B7 IO_L38N_YY (io), B8 IO_L36P_Y (io), B10 IO_L33N_YY (io), B11 IO_L32N_YY (io), B13 VCCO (power), B16 IO_L23N_Y (io), B17 IO_L22P_Y (io), B19 VCCO (power), B20 IO_L18N_Y (io), B21 IO_L16N_YY (io), B22 IO_L14P_YY (io), B24 IO_L11P_YY (io), B25 IO (io), B26 IO_L8P_Y (io), B29 IO_L4P_YY (io), B30 IO_L3N_Y (io), B32 VCCO (power), C3 VCCO (power), C5 IO_L43N_Y (io), C6 IO_L41N_YY (io), C7 IO_L39N_YY (io), C8 IO_L37P_Y (io), C9 IO_L35N_Y (io), C10 IO_L34N_Y (io), C11 IO_L32P_YY (io), C12 IO_L30N_YY (io), C13 IO_L29N_YY (io), C14 IO_L27N_YY (io), C15 IO_L25P_Y (io), C16 IO_L24P_Y (io), C17 IO_L22N_Y (io), C18 IO_LVDS_DLL_L21N (io), C19 IO_L19P_Y (io), C20 IO_L17P_YY (io), C21 IO_L15P_Y (io), C23 IO_L12P_Y (io), C25 IO_L9N_Y (io), C26 IO_L7P_Y (io), C27 IO_L5P_YY (io), C28 IO (io), C29 IO_L2P_YY (io), C30 IO (io), D6 IO_WRITE_L44N_YY (io), D7 IO_VREF_L41P_YY (io), D8 IO_L39P_YY (io), D9 IO (io), D10 IO_L35P_Y (io), D11 IO_VREF_L33P_YY (io), D12 IO_L31P_Y (io), D13 IO_L29P_YY (io), D14 IO_L27P_YY (io), D15 IO_L26N_YY (io), D16 IO_VREF_L23P_Y (io), D17 GCK2 (in), D18 IO_L20P_Y (io), D19 IO_L19N_Y (io), D20 IO_VREF_L17N_YY (io), D21 IO_L15N_Y (io), D22 IO_L13P_YY (io), D23 IO_L11N_YY (io), D24 IO_L9P_Y (io), D25 IO_L7N_Y (io), D26 IO_VREF_L5N_YY (io), D27 IO_L3P_Y (io), D28 IO_L1N_YY (io), D29 IO_L0P (io), D30 IO (io), E5 VCCO (power), E7 IO_L43P_Y (io), E8 IO (io), E10 IO_L37N_Y (io), E11 IO (io), E13 IO_L30P_YY (io), E14 IO_L28P_Y (io), E15 IO_VREF_L26P_YY (io), E16 IO_L24N_Y (io), E17 IO_LVDS_DLL_L21P (io), E18 IO (io), E19 IO_L18P_Y (io), E20 IO_L16P_YY (io), E21 IO_L14N_YY (io), E22 IO_L12N_Y (io), E23 IO_VREF_L10N_YY (io), E24 IO_L8N_Y (io), E25 IO_L6N_Y (io), E26 IO_L4N_YY (io), E27 IO_VREF_L2N_YY (io), E28 IO_L0N (io)
part B pins: AA1 IO_L75P_Y (io), AA2 VCCO (power), AA3 IO_L76P_Y (io), AA4 IO_L76N_Y (io), AA5 IO_L77N_Y (io), AB3 IO_L77P_Y (io), AB4 IO_L78N_Y (io), AB5 IO_D5_L79N_YY (io), AC1 IO_L78P_Y (io), AC3 IO_L79P_YY (io), AC4 IO_D6_L80P_YY (io), AC5 IO_L81N_Y (io), AD1 VCCO (power), AD3 IO_VREF_L80N_YY (io), AD4 IO_L82P_Y (io), AD5 IO_L83N_Y (io), AE1 IO_L81P_Y (io), AE3 IO (io), AE4 IO_L84N_Y (io), AE5 IO_VREF_L85N_YY (io), AF1 IO_L82N_Y (io), AF2 IO_L83P_Y (io), AF3 IO (io), AF4 IO_L86P_Y (io), AF5 IO_L87N_Y (io), AG2 IO_L84P_Y (io), AG4 IO_L88P_Y (io), AG5 IO_L89N_Y (io), AH1 IO_L85P_YY (io), AH3 IO (io), AH4 IO_L90N_Y (io), AH5 IO_INIT_L91N_YY (io), AJ1 IO_L86N_Y (io), AJ2 IO_L87P_Y (io), AJ3 IO_L89P_Y (io), AJ4 IO_D7_L91P_YY (io), AK1 VCCO (power), AK2 IO_VREF_L88N_Y (io), AK3 IO (io), AL1 IO_L90P_Y (io), AL2 VCCO (power), B2 VCCO (power), B3 IO_L46N_Y (io), C1 IO_L47N_Y (io), D1 VCCO (power), D2 IO_L49P_Y (io), D3 IO (io), D4 IO_DOUT_BUSY_L45P_YY (io), E2 IO_L50N_Y (io), E3 IO_L48N_Y (io), E4 IO_DIN_D0_L45N_YY (io), F1 IO_L52N_Y (io), F3 IO (io), F4 IO_L47P_Y (io), F5 IO_L46P_Y (io), G1 IO (io), G3 IO_L51N_YY (io), G4 IO_L49N_Y (io), G5 IO_VREF_L48P_Y (io), H1 VCCO (power), H2 IO_L54N_Y (io), H3 IO_L53N_Y (io), H4 IO_VREF_L51P_YY (io), H5 IO_L50P_Y (io), J2 IO (io), J3 IO_L55P_Y (io), J4 IO_L53P_Y (io), J5 IO_L52P_Y (io), K2 IO_L57N_YY (io), K3 IO_D1_L56N_YY (io), K4 IO_L55N_Y (io), K5 IO_L54P_Y (io), L1 IO_L59P_Y (io), L3 IO_L58N_Y (io), L4 IO_D2_L57P_YY (io), L5 IO_VREF_L56P_YY (io), M1 VCCO (power), M2 IO_L60N_Y (io), M4 IO_L59N_Y (io), M5 IO_L58P_Y (io), N2 IO_L62P_Y (io), N3 IO_L61N_Y (io), N4 IO_L61P_Y (io), N5 IO_L60P_Y (io), P2 IO_L64P_Y (io), P3 IO_D3_L63N_YY (io), P4 IO_VREF_L63P_YY (io), P5 IO_L62N_Y (io), R1 IO_VREF_L66P_Y (io), R2 VCCO (power), R3 IO_L65N_Y (io), R4 IO_L65P_Y (io), R5 IO_L64N_Y (io), T2 IO_L68P_YY (io), T3 IO_L67N_Y (io), T4 IO_L66N_Y (io), T5 IO_L67P_Y (io), U1 IO_L69P_Y (io), U2 IO_L69N_Y (io), U3 IO_L68N_YY (io), U4 IO (io), V1 VCCO (power), V2 IO_L70P_Y (io), V3 IO_L71N_Y (io), V4 IO_VREF_L70N_Y (io), V5 IO_L71P_Y (io), W1 IO_L72P_Y (io), W3 IO_L72N_Y (io), W4 IO_D4_L73P_YY (io), W5 IO_VREF_L73N_YY (io), Y3 IO_L74P_Y (io), Y4 IO_L74N_Y (io), Y5 IO_L75N_Y (io)
part C pins: AJ6 IO_L92N_YY (io), AJ7 IO_L94N_YY (io), AJ8 IO (io), AJ9 IO_L98N_YY (io), AJ10 IO_L100N_Y (io), AJ11 IO (io), AJ12 IO_L104N_YY (io), AJ14 IO_L109P_YY (io), AJ15 IO_L111P_Y (io), AJ16 IO_L113N_Y (io), AJ17 GCK1 (in), AJ18 IO_VREF_L116N_Y (io), AJ19 IO_L119P_YY (io), AJ20 IO_L121P_Y (io), AJ21 IO_L123P_YY (io), AJ22 IO_L125N_YY (io), AJ23 IO_L127N_Y (io), AJ24 IO_L129N_Y (io), AJ25 IO_VREF_L131N_YY (io), AJ26 IO_L133N_Y (io), AJ27 IO_L135N_YY (io), AK5 IO_L93P_Y (io), AK6 IO (io), AK7 IO_L96P_Y (io), AK9 IO (io), AK10 IO_L102P_Y (io), AK12 IO_L105N_Y (io), AK13 IO_L107P_YY (io), AK14 IO_L109N_YY (io), AK15 IO_L111N_Y (io), AK16 IO_L114P_Y (io), AK18 IO_L116P_Y (io), AK19 IO_L118P_Y (io), AK21 IO_L122P_YY (io), AK22 IO_L124P_Y (io), AK23 IO_L126P_YY (io), AK24 IO_L128P_Y (io), AK25 IO_L130N_Y (io), AK26 IO_L132P_YY (io), AK27 IO_L134P_YY (io), AK28 IO_L136N_Y (io), AL4 IO_L92P_YY (io), AL5 IO_L94P_YY (io), AL6 IO_L96N_Y (io), AL7 IO_VREF_L98P_YY (io), AL8 IO_L99N_Y (io), AL9 IO_L101P_Y (io), AL10 IO_VREF_L103P_YY (io), AL11 IO_L104P_YY (io), AL12 IO_L106P_YY (io), AL13 IO_L107N_YY (io), AL15 IO_L112P_Y (io), AL16 IO_VREF_L113P_Y (io), AL17 GCK0 (in), AL18 IO (io), AL19 IO_L117N_Y (io), AL20 IO_VREF_L119N_YY (io), AL21 IO_L120N_YY (io), AL23 IO_L125P_YY (io), AL24 IO_VREF_L126N_YY (io), AL25 IO (io), AL26 IO_L130P_Y (io), AL28 IO (io), AL29 IO_VREF_L134N_YY (io), AL30 IO (io), AL31 VCCO (power), AM2 VCCO (power), AM4 IO_VREF_L95P_YY (io), AM5 IO_L95N_YY (io), AM6 IO_L97P_YY (io), AM8 IO_L100P_Y (io), AM9 IO_L101N_Y (io), AM10 IO_L103N_YY (io), AM12 IO_L106N_YY (io), AM13 IO_L108P_Y (io), AM14 IO_VREF_L110P_YY (io), AM15 VCCO (power), AM16 IO_L112N_Y (io), AM17 IO_LVDS_DLL_L115P (io), AM18 IO_LVDS_DLL_L115N (io), AM20 IO_L118N_Y (io), AM21 VCCO (power), AM22 IO_L121N_Y (io), AM23 IO_L123N_YY (io), AM24 IO_L124N_Y (io), AM26 IO_L128N_Y (io), AM27 IO_L129P_Y (io), AM29 IO_L132N_YY (io), AM30 IO_L133P_Y (io), AM31 IO_L136P_Y (io), AN3 IO_L93N_Y (io), AN4 VCCO (power), AN6 IO_L97N_YY (io), AN7 IO_L99P_Y (io), AN8 VCCO (power), AN9 IO_L102N_Y (io), AN11 IO_L105P_Y (io), AN12 VCCO (power), AN13 IO_L108N_Y (io), AN15 IO_L110N_YY (io), AN17 IO_L114N_Y (io), AN18 VCCO (power), AN19 IO_L117P_Y (io), AN21 IO_L120P_YY (io), AN23 IO_L122N_YY (io), AN24 VCCO (power), AN26 IO_L127P_Y (io), AN28 IO (io), AN29 IO_L131P_YY (io), AN30 VCCO (power), AN31 IO_L135P_YY (io)
part D pins: AA29 IO_L151P_Y (io), AA30 IO_L152N_Y (io), AA31 IO_L152P_Y (io), AA32 IO_L153N_Y (io), AA33 IO_L154N_Y (io), AB29 IO_L149N_YY (io), AB30 IO_L150P_Y (io), AB31 IO_L151N_Y (io), AB33 VCCO (power), AC29 IO_L147P_Y (io), AC30 IO_L148P_YY (io), AC31 IO_L149P_YY (io), AC33 IO_L150N_Y (io), AD29 IO_L145N_Y (io), AD30 IO_L146P_Y (io), AD31 IO_VREF_L148N_YY (io), AE29 IO_VREF_L143N_YY (io), AE30 IO_L144P_Y (io), AE31 IO_L146N_Y (io), AE32 IO_L147N_Y (io), AE33 IO (io), AF29 IO_L141P_Y (io), AF30 IO_L142P_Y (io), AF31 IO (io), AF32 IO_L145P_Y (io), AF33 VCCO (power), AG29 IO_L139N_Y (io), AG30 IO_L140P_Y (io), AG33 IO_L144N_Y (io), AH29 IO_L137N_YY (io), AH30 IO_L138P_Y (io), AH31 IO_L141N_Y (io), AH32 IO_L142N_Y (io), AH33 IO_L143P_YY (io), AJ30 IO_L137P_YY (io), AJ31 IO_L139P_Y (io), AJ32 IO (io), AK31 IO_L138N_Y (io), AK32 IO_VREF_L140N_Y (io), AK33 VCCO (power), AL33 IO (io), AM32 VCCO (power), C32 VCCO (power), C33 IO_L181P_Y (io), D31 IO_L182P_Y (io), D32 IO_L180N_Y (io), D33 VCCO (power), E30 IO (io), E31 IO_VREF_L180P_Y (io), E32 IO_L178P_Y (io), E33 IO_L178N_Y (io), F29 IO (io), F30 IO_L182N_Y (io), F31 IO_L179P_Y (io), F33 IO (io), G29 IO_L181N_Y (io), G30 IO (io), G31 IO_VREF_L177P_YY (io), G32 IO_L176P_Y (io), H29 IO_L179N_Y (io), H31 IO_L175P_Y (io), H32 IO_L174P_Y (io), H33 IO_L173P_Y (io), J29 IO_L177N_YY (io), J30 IO_L176N_Y (io), J31 IO_L174N_Y (io), J33 IO_L171P_YY (io), K29 IO_L175N_Y (io), K30 IO (io), K31 IO_VREF_L172P_YY (io), K33 VCCO (power), L29 IO_L173N_Y (io), L30 IO_L172N_YY (io), L31 IO_L170P_Y (io), L32 IO_L169P_Y (io), L33 IO_L168P_Y (io), M29 IO_L171N_YY (io), M30 IO_L170N_Y (io), M31 IO_L169N_Y (io), M32 IO_L167N_Y (io), N30 IO_L168N_Y (io), N31 IO_L167P_Y (io), N32 VCCO (power), P29 IO_L166P_Y (io), P30 IO_L166N_Y (io), P31 IO_VREF_L165P_YY (io), P32 IO_L165N_YY (io), R29 IO_L164P_Y (io), R30 IO_L164N_Y (io), R31 IO_L163P_Y (io), R33 IO_L163N_Y (io), T29 IO_L162N_Y (io), T30 IO_L161P_Y (io), T31 IO_VREF_L162P_Y (io), T32 IO_L161N_Y (io), T33 VCCO (power), U29 IO (io), U31 IO_L160N_YY (io), U32 IO_L160P_YY (io), U33 IO_L159P_Y (io), V29 IO_VREF_L158N_Y (io), V30 IO_L157P_Y (io), V31 IO_L158P_Y (io), V32 IO_L159N_Y (io), W29 IO_L155P_YY (io), W30 IO_L156N_Y (io), W31 IO_L156P_Y (io), W32 VCCO (power), W33 IO_L157N_Y (io), Y29 IO_L153P_Y (io), Y30 IO_L154P_Y (io), Y32 IO_VREF_L155N_YY (io)
part E pins: A1 GND (power), A7 GND (power), A12 GND (power), A14 GND (power), A18 GND (power), A20 GND (power), A21 VCCINT (power), A24 GND (power), A29 GND (power), A32 GND (power), A33 GND (power), AB1 GND (power), AB2 VCCINT (power), AB32 VCCINT (power), AC2 NC, AC32 GND (power), AD2 VCCINT (power), AD32 VCCINT (power), AD33 GND (power), AE2 GND (power), AG1 GND (power), AG3 VCCINT (power), AG31 VCCINT (power), AG32 GND (power), AH2 GND (power), AJ5 DONE (io), AJ13 VCCINT (power), AJ28 DXP, AJ29 M0 (in), AJ33 GND (power), AK4 NC, AK8 VCCINT (power), AK11 VCCINT (power), AK17 VCCINT (power), AK20 VCCINT (power), AK29 DXN, AK30 M1 (in), AL3 NC, AL14 VCCINT (power), AL22 VCCINT (power), AL27 VCCINT (power), AL32 GND (power), AM1 PROGRAM (in), AM3 GND (power), AM7 GND (power), AM11 GND (power), AM19 GND (power), AM25 GND (power), AM28 GND (power), AM33 GND (power), AN1 GND (power), AN2 GND (power), AN5 GND (power), AN10 GND (power), AN14 GND (power), AN16 GND (power), AN20 GND (power), AN22 GND (power), AN25 VCCINT (power), AN27 GND (power), AN32 M2 (in), AN33 GND (power), B1 GND (power), B6 GND (power), B9 GND (power), B12 VCCINT (power), B14 VCCINT (power), B15 GND (power), B18 VCCINT (power), B23 GND (power), B27 GND (power), B28 VCCINT (power), B31 GND (power), B33 TMS (in), C2 GND (power), C4 CCLK (io), C22 VCCINT (power), C24 VCCINT (power), C31 NC, D5 TDI (in), E1 GND (power), E6 TDO (out), E9 VCCINT (power), E12 VCCINT (power), E29 TCK (in), F2 VCCINT (power), F32 GND (power), G2 GND (power), G33 GND (power), H30 VCCINT (power), J1 VCCINT (power), J32 GND (power), K1 GND (power), K32 VCCINT (power), L2 GND (power), M3 VCCINT (power), M33 GND (power), N1 VCCINT (power), N29 VCCINT (power), N33 VCCINT (power), P1 GND (power), P33 GND (power), R32 GND (power), T1 GND (power), U5 VCCINT (power), U30 VCCINT (power), V33 GND (power), W2 GND (power), Y1 GND (power), Y2 VCCINT (power), Y31 VCCINT (power), Y33 GND (power)
part A text: BANK 0; BANK 1
part B text: BANK 2; BANK 3
part C text: BANK 4; BANK 5
part D text: BANK 6; BANK 7

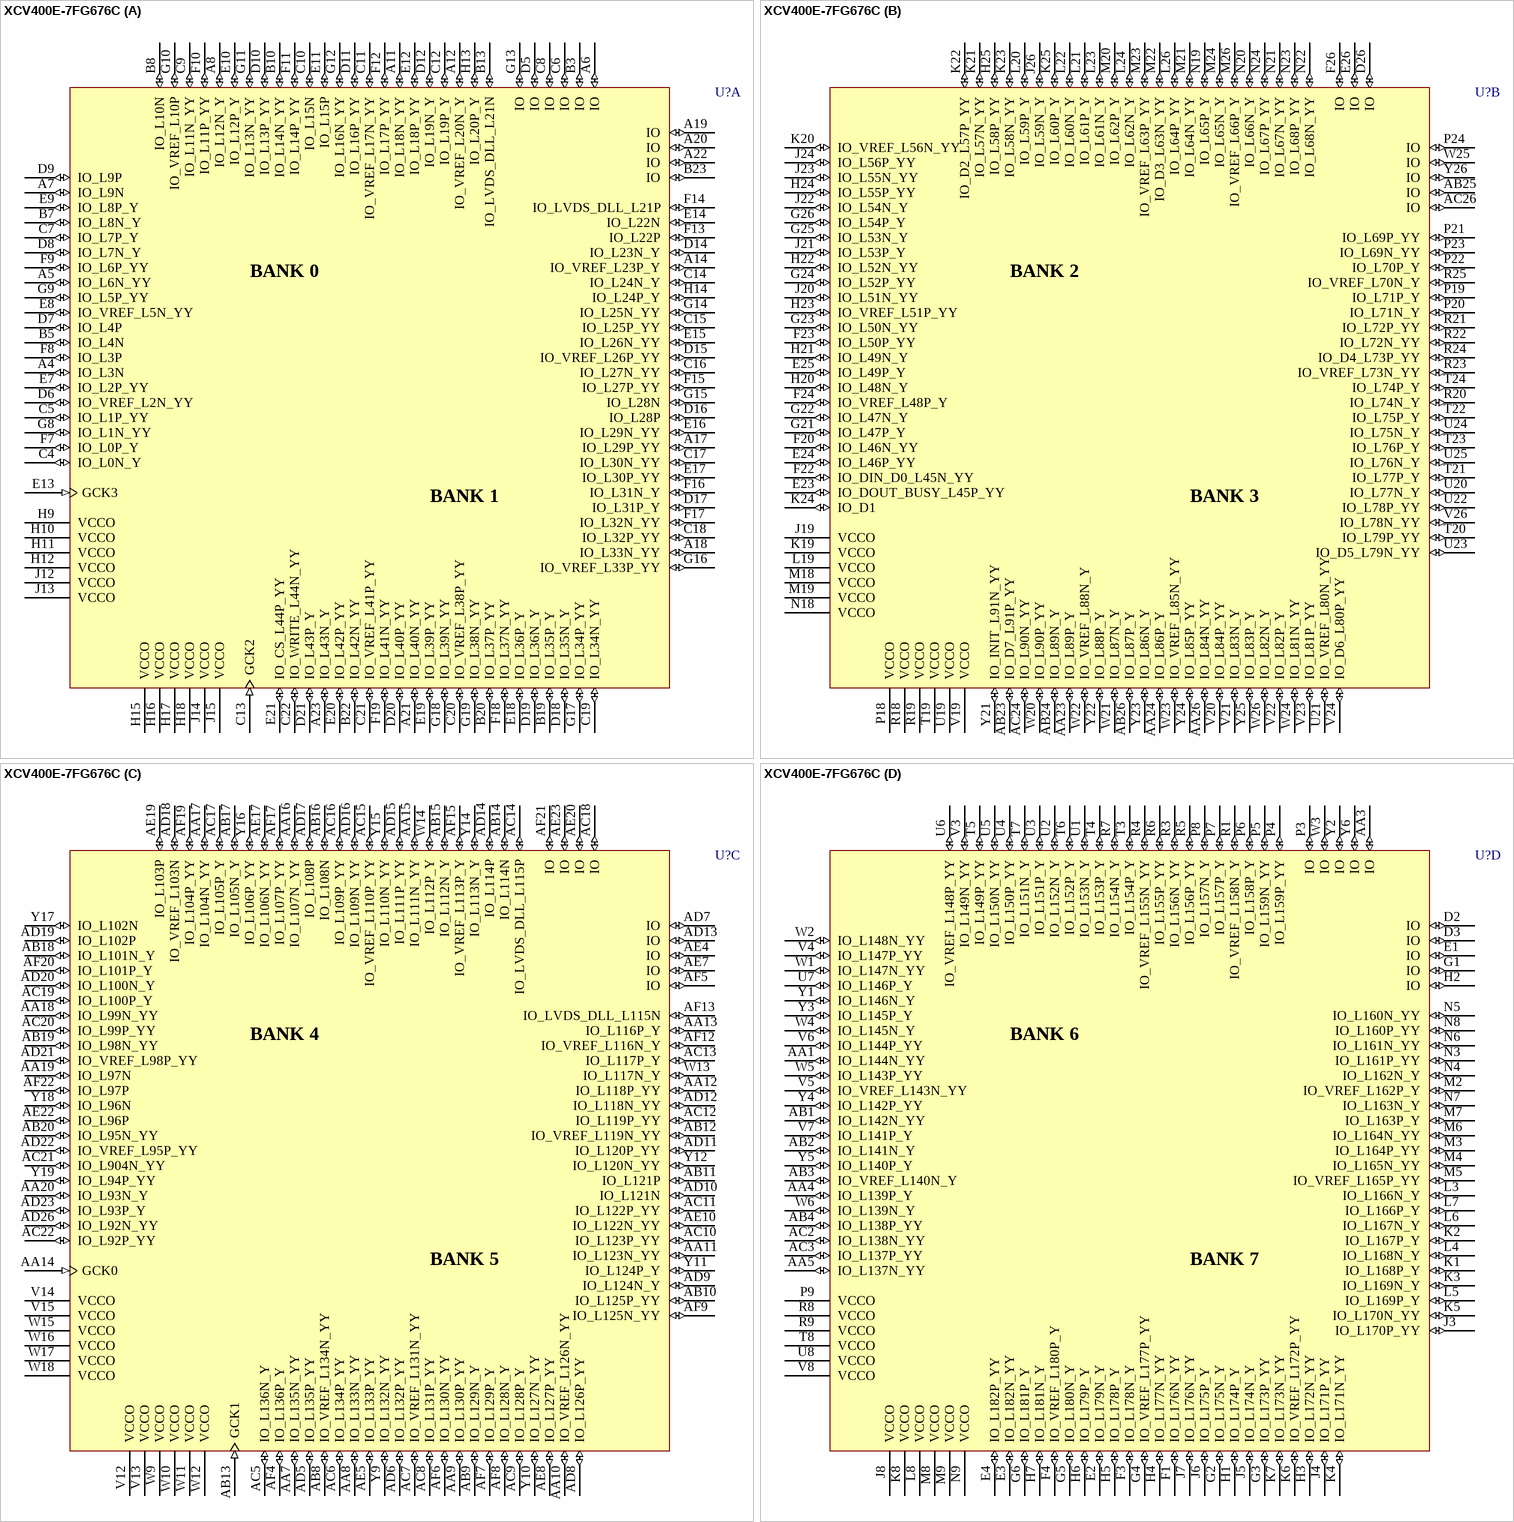
[diagram p153: symbol XCV400E-7FG676C]

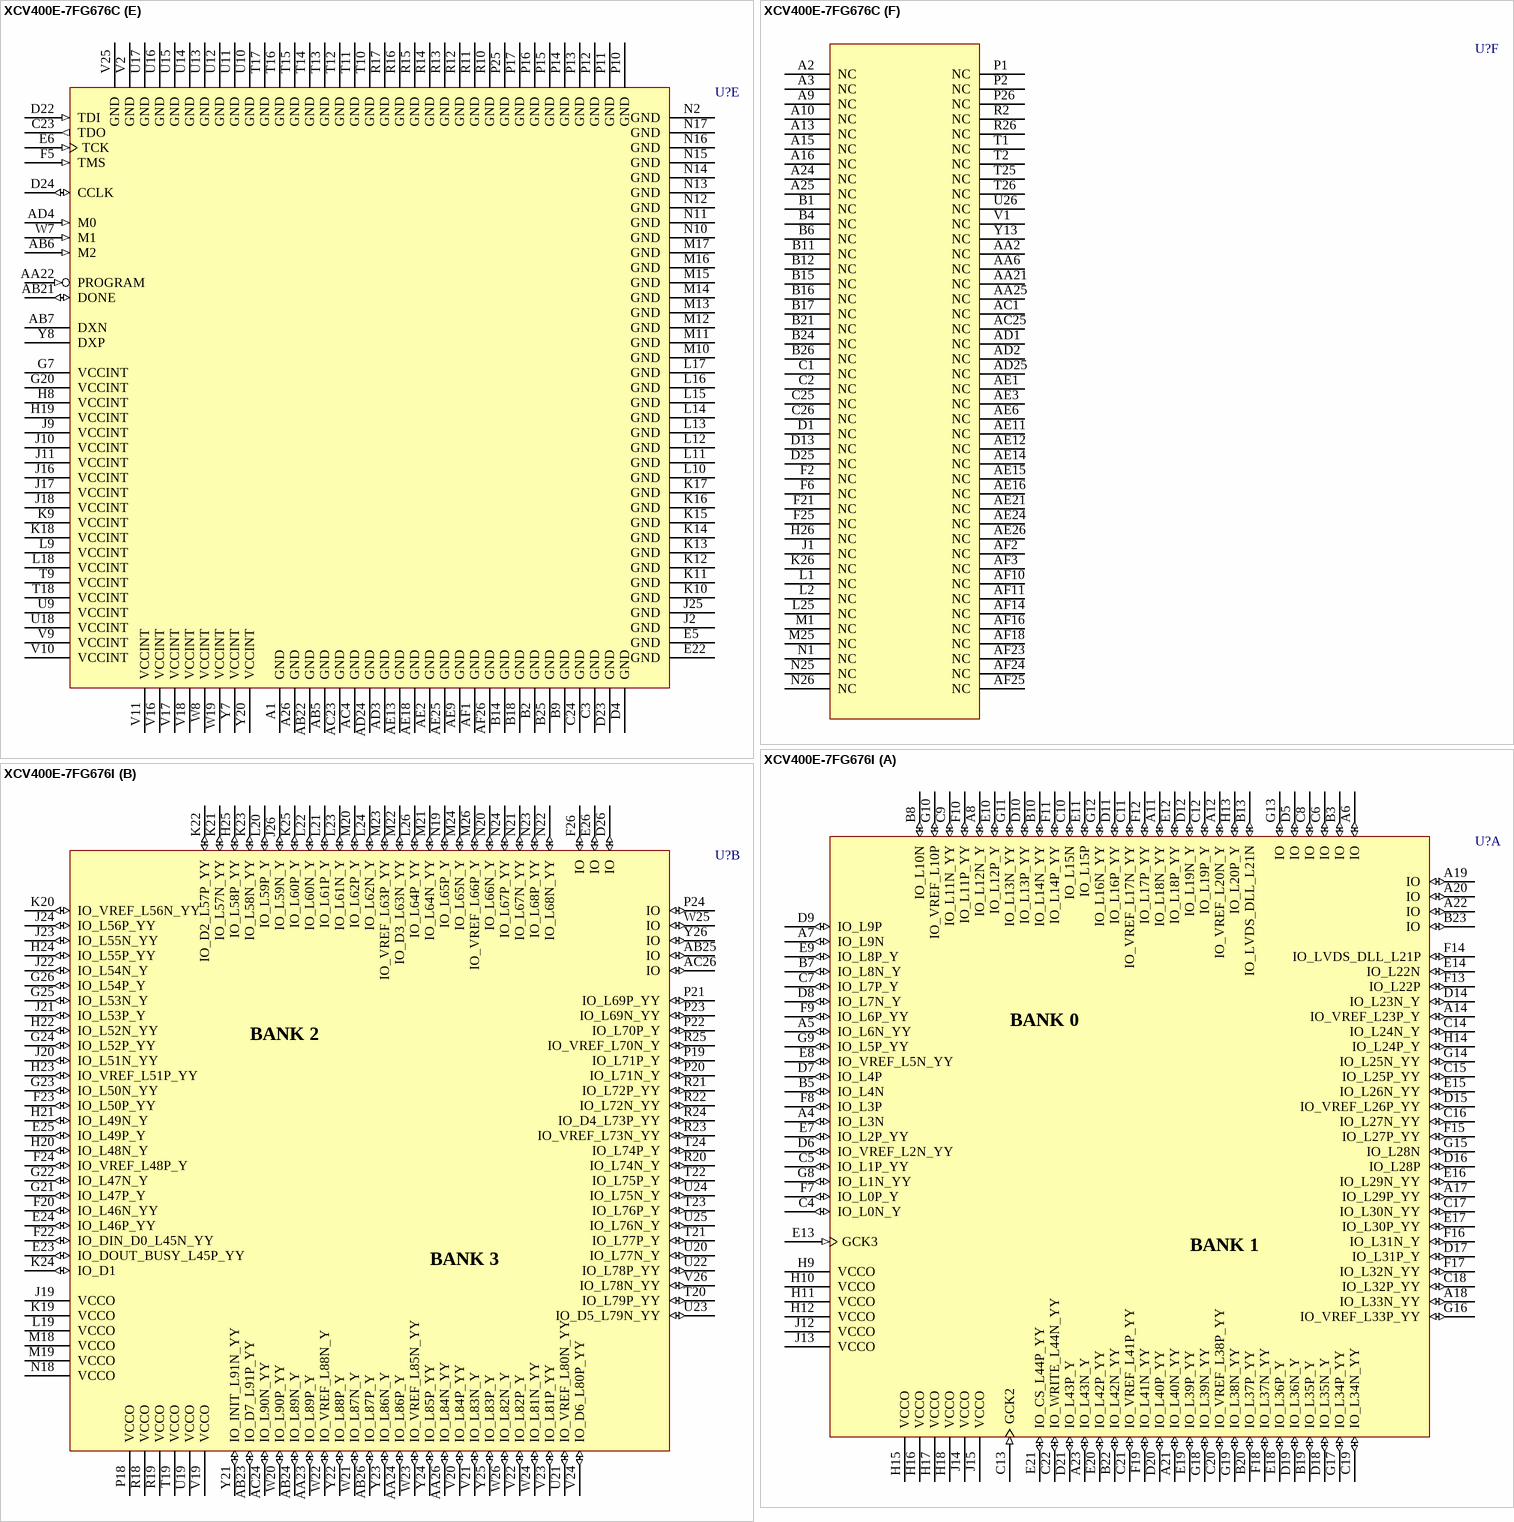
[diagram p154: symbols XCV400E-7FG676C to XCV400E-7FG676I]